# Altium integrated library Motorola Microcontroller 16-Bit.IntLib: 323 symbols (part 9 of 22)
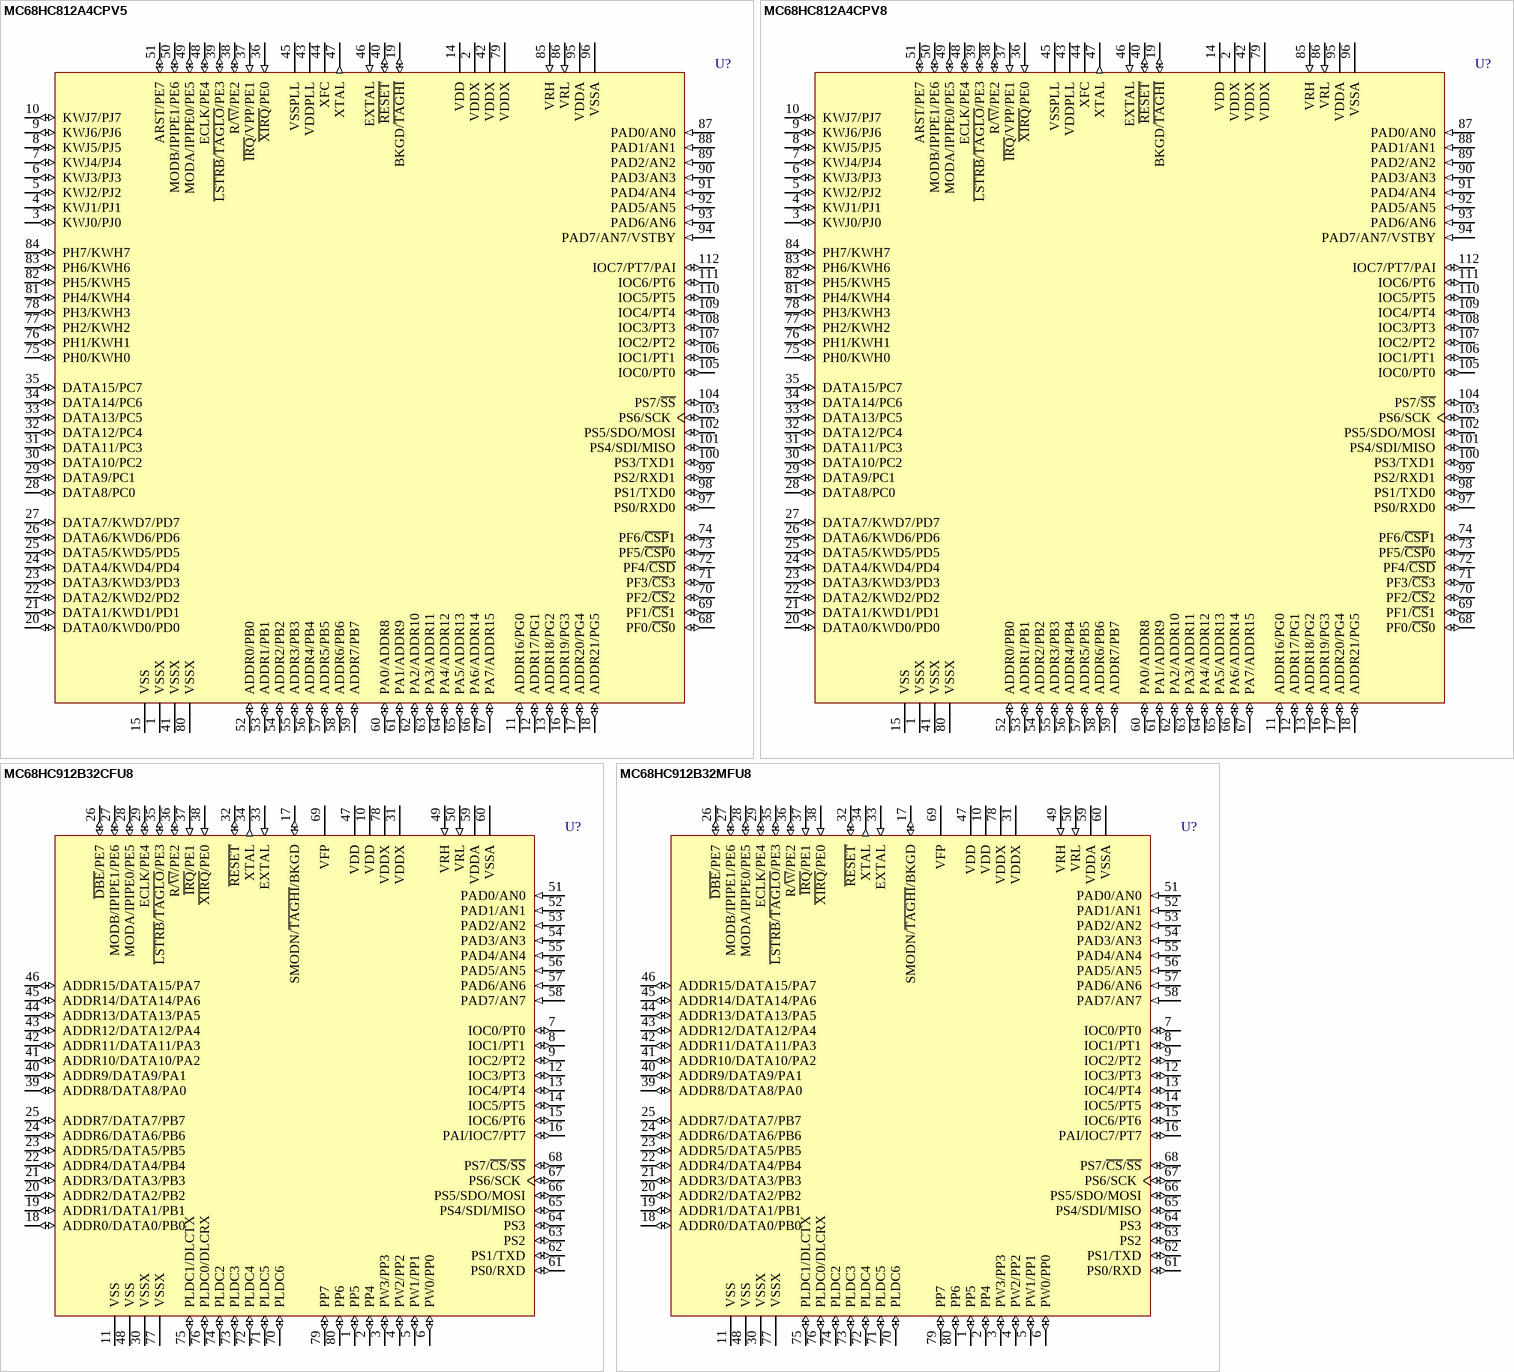
[diagram p149: symbols MC68HC812A4CPV5 to MC68HC912B32MFU8]

## MC68HC812A4CPV5
designator U?
16-Bit Microcontroller; Published: 21-Mar-2003; LatestRevisionDate: 13-Apr-2006; LatestRevisionNote: IPC-7351 Footprint Added.; DatasheetVersion: 9-Sep-2002; PackageVersion: rev3.1, Nov-2000; PackageReference: 987-01; Publisher: Altium Limited; PackageDescription: 112-Pin Thin Quad Flat Pack 0.65 mm Pitch; ComponentLink1Description: Manufacturer Link; ComponentLink1URL: http://www.freescale.com/
footprint 987-01_N (Thin QFP, 112-Leads, Body 20 x 20mm, Pitch 0.65mm, IPC Medium Density)
footprint 987-01_L (Thin QFP, 112-Leads, Body 20 x 20mm, Pitch 0.65mm, IPC High Density)
footprint 987-01_M (Thin QFP, 112-Leads, Body 20 x 20mm, Pitch 0.65mm, IPC Low Density)
3D model MC68HC812-987-01 (112-Pin Thin Quad Flat Pack 0.65 mm Pitch)
pins: 1 VSSX (power), 2 VDDX (power), 3 KWJ0/PJ0 (io), 4 KWJ1/PJ1 (io), 5 KWJ2/PJ2 (io), 6 KWJ3/PJ3 (io), 7 KWJ4/PJ4 (io), 8 KWJ5/PJ5 (io), 9 KWJ6/PJ6 (io), 10 KWJ7/PJ7 (io), 11 ADDR16/PG0 (io), 12 ADDR17/PG1 (io), 13 ADDR18/PG2 (io), 14 VDD (power), 15 VSS (power), 16 ADDR19/PG3 (io), 17 ADDR20/PG4 (io), 18 ADDR21/PG5 (io), 19 BKGD/~{TAGHI} (io), 20 DATA0/KWD0/PD0 (io), 21 DATA1/KWD1/PD1 (io), 22 DATA2/KWD2/PD2 (io), 23 DATA3/KWD3/PD3 (io), 24 DATA4/KWD4/PD4 (io), 25 DATA5/KWD5/PD5 (io), 26 DATA6/KWD6/PD6 (io), 27 DATA7/KWD7/PD7 (io), 28 DATA8/PC0 (io), 29 DATA9/PC1 (io), 30 DATA10/PC2 (io), 31 DATA11/PC3 (io), 32 DATA12/PC4 (io), 33 DATA13/PC5 (io), 34 DATA14/PC6 (io), 35 DATA15/PC7 (io), 36 ~{XIRQ}/PE0 (in), 37 ~{IRQ}/VPP/PE1 (in), 38 R/~{W}/PE2 (io), 39 ~{LSTRB}/~{TAGLO}/PE3 (io), 40 ~{RESET} (io), 41 VSSX (power), 42 VDDX (power), 43 VDDPLL (power), 44 XFC, 45 VSSPLL (power), 46 EXTAL (in), 47 XTAL (out), 48 ECLK/PE4 (io), 49 MODA/IPIPE0/PE5 (io), 50 MODB/IPIPE1/PE6 (io), 51 ARST/PE7 (io), 52 ADDR0/PB0 (io), 53 ADDR1/PB1 (io), 54 ADDR2/PB2 (io), 55 ADDR3/PB3 (io), 56 ADDR4/PB4 (io), 57 ADDR5/PB5 (io), 58 ADDR6/PB6 (io), 59 ADDR7/PB7 (io), 60 PA0/ADDR8 (io), 61 PA1/ADDR9 (io), 62 PA2/ADDR10 (io), 63 PA3/ADDR11 (io), 64 PA4/ADDR12 (io), 65 PA5/ADDR13 (io), 66 PA6/ADDR14 (io), 67 PA7/ADDR15 (io), 68 PF0/~{CS}0 (io), 69 PF1/~{CS}1 (io), 70 PF2/~{CS}2 (io), 71 PF3/~{CS}3 (io), 72 PF4/~{CSD} (io), 73 PF5/~{CSP}0 (io), 74 PF6/~{CSP}1 (io), 75 PH0/KWH0 (io), 76 PH1/KWH1 (io), 77 PH2/KWH2 (io), 78 PH3/KWH3 (io), 79 VDDX (power), 80 VSSX (power), 81 PH4/KWH4 (io), 82 PH5/KWH5 (io), 83 PH6/KWH6 (io), 84 PH7/KWH7 (io), 85 VRH (in), 86 VRL (in), 87 PAD0/AN0 (in), 88 PAD1/AN1 (in), 89 PAD2/AN2 (in), 90 PAD3/AN3 (in), 91 PAD4/AN4 (in), 92 PAD5/AN5 (in), 93 PAD6/AN6 (in), 94 PAD7/AN7/VSTBY (in), 95 VDDA (power), 96 VSSA (power), 97 PS0/RXD0 (io), 98 PS1/TXD0 (io), 99 PS2/RXD1 (io), 100 PS3/TXD1 (io), 101 PS4/SDI/MISO (io), 102 PS5/SDO/MOSI (io), 103 PS6/SCK (io), 104 PS7/~{SS} (io), 105 IOC0/PT0 (io), 106 IOC1/PT1 (io), 107 IOC2/PT2 (io), 108 IOC3/PT3 (io), 109 IOC4/PT4 (io), 110 IOC5/PT5 (io), 111 IOC6/PT6 (io), 112 IOC7/PT7/PAI (io)

## MC68HC812A4CPV8
designator U?
16-Bit Microcontroller; Published: 21-Mar-2003; LatestRevisionDate: 13-Apr-2006; LatestRevisionNote: IPC-7351 Footprint Added.; DatasheetVersion: 9-Sep-2002; PackageVersion: rev3.1, Nov-2000; PackageReference: 987-01; Publisher: Altium Limited; PackageDescription: 112-Pin Thin Quad Flat Pack 0.65 mm Pitch; ComponentLink1Description: Manufacturer Link; ComponentLink1URL: http://www.freescale.com/
footprint 987-01_N (Thin QFP, 112-Leads, Body 20 x 20mm, Pitch 0.65mm, IPC Medium Density)
footprint 987-01_L (Thin QFP, 112-Leads, Body 20 x 20mm, Pitch 0.65mm, IPC High Density)
footprint 987-01_M (Thin QFP, 112-Leads, Body 20 x 20mm, Pitch 0.65mm, IPC Low Density)
3D model MC68HC812-987-01 (112-Pin Thin Quad Flat Pack 0.65 mm Pitch)
pins: 1 VSSX (power), 2 VDDX (power), 3 KWJ0/PJ0 (io), 4 KWJ1/PJ1 (io), 5 KWJ2/PJ2 (io), 6 KWJ3/PJ3 (io), 7 KWJ4/PJ4 (io), 8 KWJ5/PJ5 (io), 9 KWJ6/PJ6 (io), 10 KWJ7/PJ7 (io), 11 ADDR16/PG0 (io), 12 ADDR17/PG1 (io), 13 ADDR18/PG2 (io), 14 VDD (power), 15 VSS (power), 16 ADDR19/PG3 (io), 17 ADDR20/PG4 (io), 18 ADDR21/PG5 (io), 19 BKGD/~{TAGHI} (io), 20 DATA0/KWD0/PD0 (io), 21 DATA1/KWD1/PD1 (io), 22 DATA2/KWD2/PD2 (io), 23 DATA3/KWD3/PD3 (io), 24 DATA4/KWD4/PD4 (io), 25 DATA5/KWD5/PD5 (io), 26 DATA6/KWD6/PD6 (io), 27 DATA7/KWD7/PD7 (io), 28 DATA8/PC0 (io), 29 DATA9/PC1 (io), 30 DATA10/PC2 (io), 31 DATA11/PC3 (io), 32 DATA12/PC4 (io), 33 DATA13/PC5 (io), 34 DATA14/PC6 (io), 35 DATA15/PC7 (io), 36 ~{XIRQ}/PE0 (in), 37 ~{IRQ}/VPP/PE1 (in), 38 R/~{W}/PE2 (io), 39 ~{LSTRB}/~{TAGLO}/PE3 (io), 40 ~{RESET} (io), 41 VSSX (power), 42 VDDX (power), 43 VDDPLL (power), 44 XFC, 45 VSSPLL (power), 46 EXTAL (in), 47 XTAL (out), 48 ECLK/PE4 (io), 49 MODA/IPIPE0/PE5 (io), 50 MODB/IPIPE1/PE6 (io), 51 ARST/PE7 (io), 52 ADDR0/PB0 (io), 53 ADDR1/PB1 (io), 54 ADDR2/PB2 (io), 55 ADDR3/PB3 (io), 56 ADDR4/PB4 (io), 57 ADDR5/PB5 (io), 58 ADDR6/PB6 (io), 59 ADDR7/PB7 (io), 60 PA0/ADDR8 (io), 61 PA1/ADDR9 (io), 62 PA2/ADDR10 (io), 63 PA3/ADDR11 (io), 64 PA4/ADDR12 (io), 65 PA5/ADDR13 (io), 66 PA6/ADDR14 (io), 67 PA7/ADDR15 (io), 68 PF0/~{CS}0 (io), 69 PF1/~{CS}1 (io), 70 PF2/~{CS}2 (io), 71 PF3/~{CS}3 (io), 72 PF4/~{CSD} (io), 73 PF5/~{CSP}0 (io), 74 PF6/~{CSP}1 (io), 75 PH0/KWH0 (io), 76 PH1/KWH1 (io), 77 PH2/KWH2 (io), 78 PH3/KWH3 (io), 79 VDDX (power), 80 VSSX (power), 81 PH4/KWH4 (io), 82 PH5/KWH5 (io), 83 PH6/KWH6 (io), 84 PH7/KWH7 (io), 85 VRH (in), 86 VRL (in), 87 PAD0/AN0 (in), 88 PAD1/AN1 (in), 89 PAD2/AN2 (in), 90 PAD3/AN3 (in), 91 PAD4/AN4 (in), 92 PAD5/AN5 (in), 93 PAD6/AN6 (in), 94 PAD7/AN7/VSTBY (in), 95 VDDA (power), 96 VSSA (power), 97 PS0/RXD0 (io), 98 PS1/TXD0 (io), 99 PS2/RXD1 (io), 100 PS3/TXD1 (io), 101 PS4/SDI/MISO (io), 102 PS5/SDO/MOSI (io), 103 PS6/SCK (io), 104 PS7/~{SS} (io), 105 IOC0/PT0 (io), 106 IOC1/PT1 (io), 107 IOC2/PT2 (io), 108 IOC3/PT3 (io), 109 IOC4/PT4 (io), 110 IOC5/PT5 (io), 111 IOC6/PT6 (io), 112 IOC7/PT7/PAI (io)

## MC68HC912B32CFU8
designator U?
16-Bit Microcontroller; Published: 21-Mar-2003; LatestRevisionDate: 13-Apr-2006; LatestRevisionNote: IPC-7351 Footprint Added.; DatasheetVersion: 17-Apr-2002; PackageVersion: rev4.0, Apr-2002; PackageReference: 841B-02; Publisher: Altium Limited; PackageDescription: 80-Pin Quad Flat Pack 0.65 mm Pitch; Code_IPC: QFP65P1720X1720-80; ComponentLink1Description: Manufacturer Link; ComponentLink1URL: http://www.freescale.com/; ComponentLink2Description: Datasheet; ComponentLink2URL: http://www.freescale.com/files/microcontrollers/doc/data_sheet/M68HC12B.pdf
footprint 841B-02_N (QFP, 80-Leads, Body 14 x 14mm, Pitch 0.65mm, IPC Medium Density)
footprint 841B-02_L (QFP, 80-Leads, Body 14 x 14mm, Pitch 0.65mm, IPC High Density)
footprint 841B-02_M (QFP, 80-Leads, Body 14 x 14mm, Pitch 0.65mm, IPC Low Density)
3D model MC68HC912-841B-02 (80-Pin Quad Flat Pack 0.65 mm Pitch)
pins: 1 PP5 (io), 2 PP4 (io), 3 PW3/PP3 (io), 4 PW2/PP2 (io), 5 PW1/PP1 (io), 6 PW0/PP0 (io), 7 IOC0/PT0 (io), 8 IOC1/PT1 (io), 9 IOC2/PT2 (io), 10 VDD (power), 11 VSS (power), 12 IOC3/PT3 (io), 13 IOC4/PT4 (io), 14 IOC5/PT5 (io), 15 IOC6/PT6 (io), 16 PAI/IOC7/PT7 (io), 17 SMODN/~{TAGHI}/BKGD (io), 18 ADDR0/DATA0/PB0 (io), 19 ADDR1/DATA1/PB1 (io), 20 ADDR2/DATA2/PB2 (io), 21 ADDR3/DATA3/PB3 (io), 22 ADDR4/DATA4/PB4 (io), 23 ADDR5/DATA5/PB5 (io), 24 ADDR6/DATA6/PB6 (io), 25 ADDR7/DATA7/PB7 (io), 26 ~{DBE}/PE7 (io), 27 MODB/IPIPE1/PE6 (io), 28 MODA/IPIPE0/PE5 (io), 29 ECLK/PE4 (io), 30 VSSX (power), 31 VDDX (power), 32 ~{RESET} (io), 33 EXTAL (in), 34 XTAL (out), 35 ~{LSTRB}/~{TAGLO}/PE3 (io), 36 R/~{W}/PE2 (io), 37 ~{IRQ}/PE1 (in), 38 ~{XIRQ}/PE0 (in), 39 ADDR8/DATA8/PA0 (io), 40 ADDR9/DATA9/PA1 (io), 41 ADDR10/DATA10/PA2 (io), 42 ADDR11/DATA11/PA3 (io), 43 ADDR12/DATA12/PA4 (io), 44 ADDR13/DATA13/PA5 (io), 45 ADDR14/DATA14/PA6 (io), 46 ADDR15/DATA15/PA7 (io), 47 VDD (power), 48 VSS (power), 49 VRH (in), 50 VRL (in), 51 PAD0/AN0 (in), 52 PAD1/AN1 (in), 53 PAD2/AN2 (in), 54 PAD3/AN3 (in), 55 PAD4/AN4 (in), 56 PAD5/AN5 (in), 57 PAD6/AN6 (in), 58 PAD7/AN7 (in), 59 VDDA (power), 60 VSSA (power), 61 PS0/RXD (io), 62 PS1/TXD (io), 63 PS2 (io), 64 PS3 (io), 65 PS4/SDI/MISO (io), 66 PS5/SDO/MOSI (io), 67 PS6/SCK (io), 68 PS7/~{CS}/~{SS} (io), 69 VFP (power), 70 PLDC6 (io), 71 PLDC5 (io), 72 PLDC4 (io), 73 PLDC3 (io), 74 PLDC2 (io), 75 PLDC1/DLCTX (io), 76 PLDC0/DLCRX (io), 77 VSSX (power), 78 VDDX (power), 79 PP7 (io), 80 PP6 (io)

## MC68HC912B32MFU8
designator U?
16-Bit Microcontroller; Published: 21-Mar-2003; LatestRevisionDate: 13-Apr-2006; LatestRevisionNote: IPC-7351 Footprint Added.; DatasheetVersion: 17-Apr-2002; PackageVersion: rev4.0, Apr-2002; PackageReference: 841B-02; Publisher: Altium Limited; PackageDescription: 80-Pin Quad Flat Pack 0.65 mm Pitch; Code_IPC: QFP65P1720X1720-80; ComponentLink1Description: Manufacturer Link; ComponentLink1URL: http://www.freescale.com/; ComponentLink2Description: Datasheet; ComponentLink2URL: http://www.freescale.com/files/microcontrollers/doc/data_sheet/M68HC12B.pdf
footprint 841B-02_N (QFP, 80-Leads, Body 14 x 14mm, Pitch 0.65mm, IPC Medium Density)
footprint 841B-02_L (QFP, 80-Leads, Body 14 x 14mm, Pitch 0.65mm, IPC High Density)
footprint 841B-02_M (QFP, 80-Leads, Body 14 x 14mm, Pitch 0.65mm, IPC Low Density)
3D model MC68HC912-841B-02 (80-Pin Quad Flat Pack 0.65 mm Pitch)
pins: 1 PP5 (io), 2 PP4 (io), 3 PW3/PP3 (io), 4 PW2/PP2 (io), 5 PW1/PP1 (io), 6 PW0/PP0 (io), 7 IOC0/PT0 (io), 8 IOC1/PT1 (io), 9 IOC2/PT2 (io), 10 VDD (power), 11 VSS (power), 12 IOC3/PT3 (io), 13 IOC4/PT4 (io), 14 IOC5/PT5 (io), 15 IOC6/PT6 (io), 16 PAI/IOC7/PT7 (io), 17 SMODN/~{TAGHI}/BKGD (io), 18 ADDR0/DATA0/PB0 (io), 19 ADDR1/DATA1/PB1 (io), 20 ADDR2/DATA2/PB2 (io), 21 ADDR3/DATA3/PB3 (io), 22 ADDR4/DATA4/PB4 (io), 23 ADDR5/DATA5/PB5 (io), 24 ADDR6/DATA6/PB6 (io), 25 ADDR7/DATA7/PB7 (io), 26 ~{DBE}/PE7 (io), 27 MODB/IPIPE1/PE6 (io), 28 MODA/IPIPE0/PE5 (io), 29 ECLK/PE4 (io), 30 VSSX (power), 31 VDDX (power), 32 ~{RESET} (io), 33 EXTAL (in), 34 XTAL (out), 35 ~{LSTRB}/~{TAGLO}/PE3 (io), 36 R/~{W}/PE2 (io), 37 ~{IRQ}/PE1 (in), 38 ~{XIRQ}/PE0 (in), 39 ADDR8/DATA8/PA0 (io), 40 ADDR9/DATA9/PA1 (io), 41 ADDR10/DATA10/PA2 (io), 42 ADDR11/DATA11/PA3 (io), 43 ADDR12/DATA12/PA4 (io), 44 ADDR13/DATA13/PA5 (io), 45 ADDR14/DATA14/PA6 (io), 46 ADDR15/DATA15/PA7 (io), 47 VDD (power), 48 VSS (power), 49 VRH (in), 50 VRL (in), 51 PAD0/AN0 (in), 52 PAD1/AN1 (in), 53 PAD2/AN2 (in), 54 PAD3/AN3 (in), 55 PAD4/AN4 (in), 56 PAD5/AN5 (in), 57 PAD6/AN6 (in), 58 PAD7/AN7 (in), 59 VDDA (power), 60 VSSA (power), 61 PS0/RXD (io), 62 PS1/TXD (io), 63 PS2 (io), 64 PS3 (io), 65 PS4/SDI/MISO (io), 66 PS5/SDO/MOSI (io), 67 PS6/SCK (io), 68 PS7/~{CS}/~{SS} (io), 69 VFP (power), 70 PLDC6 (io), 71 PLDC5 (io), 72 PLDC4 (io), 73 PLDC3 (io), 74 PLDC2 (io), 75 PLDC1/DLCTX (io), 76 PLDC0/DLCRX (io), 77 VSSX (power), 78 VDDX (power), 79 PP7 (io), 80 PP6 (io)

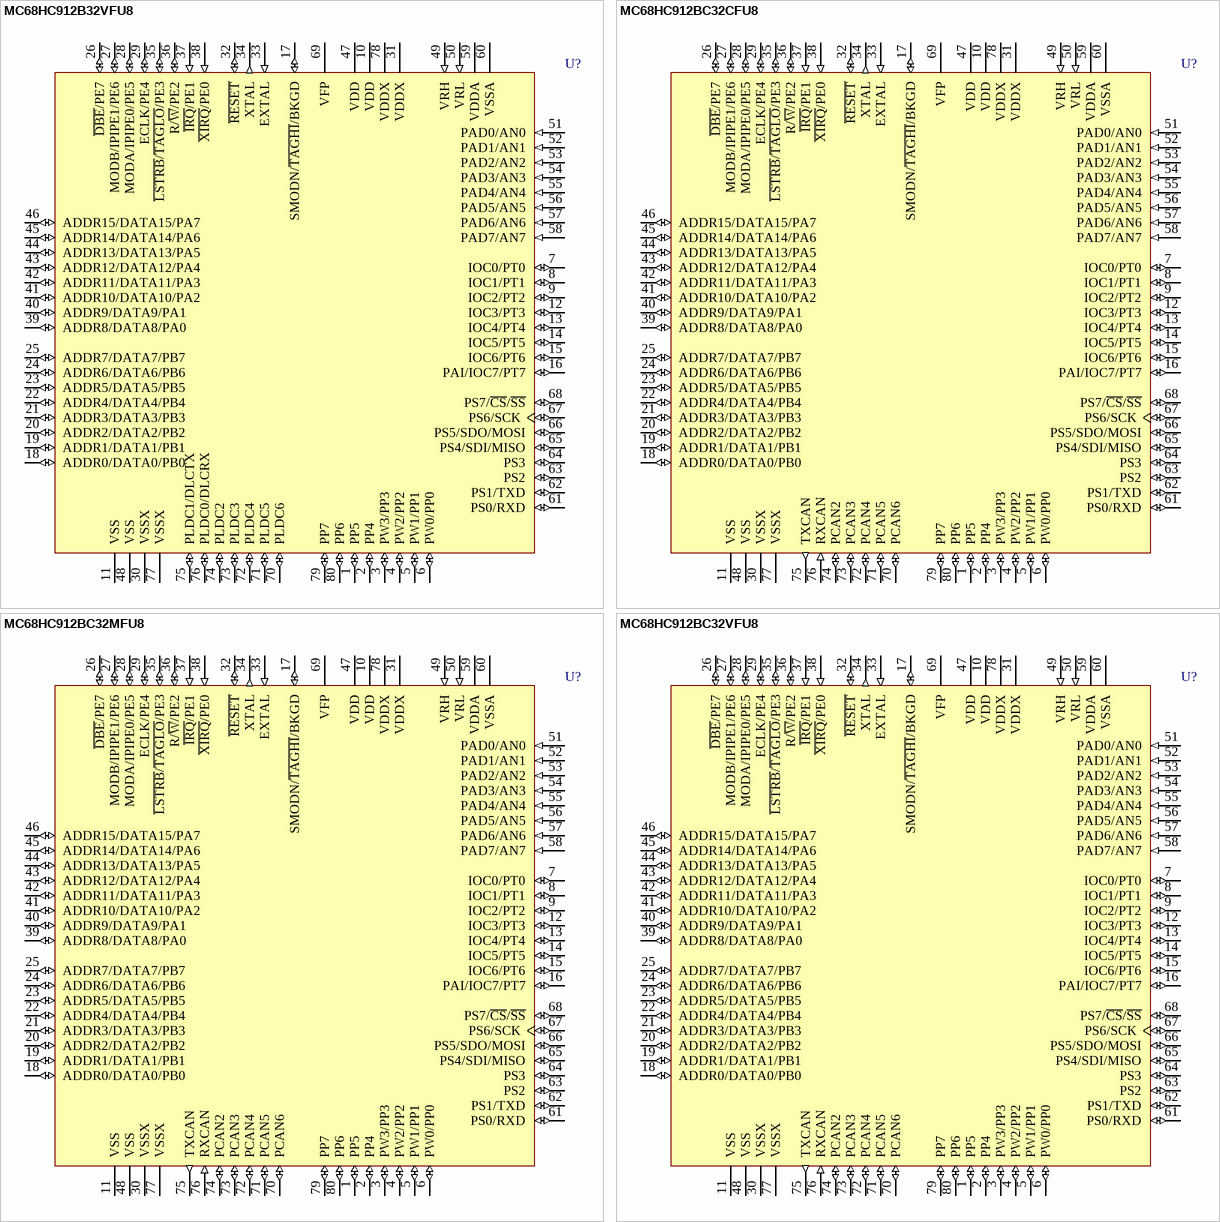
[diagram p44: symbols MC68HC912B32VFU8 to MC68HC912BC32VFU8]

## MC68HC912B32VFU8
designator U?
16-Bit Microcontroller; Published: 21-Mar-2003; LatestRevisionDate: 13-Apr-2006; LatestRevisionNote: IPC-7351 Footprint Added.; DatasheetVersion: 17-Apr-2002; PackageVersion: rev4.0, Apr-2002; PackageReference: 841B-02; Publisher: Altium Limited; PackageDescription: 80-Pin Quad Flat Pack 0.65 mm Pitch; Code_IPC: QFP65P1720X1720-80; ComponentLink1Description: Manufacturer Link; ComponentLink1URL: http://www.freescale.com/; ComponentLink2Description: Datasheet; ComponentLink2URL: http://www.freescale.com/files/microcontrollers/doc/data_sheet/M68HC12B.pdf
footprint 841B-02_N (QFP, 80-Leads, Body 14 x 14mm, Pitch 0.65mm, IPC Medium Density)
footprint 841B-02_L (QFP, 80-Leads, Body 14 x 14mm, Pitch 0.65mm, IPC High Density)
footprint 841B-02_M (QFP, 80-Leads, Body 14 x 14mm, Pitch 0.65mm, IPC Low Density)
3D model MC68HC912-841B-02 (80-Pin Quad Flat Pack 0.65 mm Pitch)
pins: 1 PP5 (io), 2 PP4 (io), 3 PW3/PP3 (io), 4 PW2/PP2 (io), 5 PW1/PP1 (io), 6 PW0/PP0 (io), 7 IOC0/PT0 (io), 8 IOC1/PT1 (io), 9 IOC2/PT2 (io), 10 VDD (power), 11 VSS (power), 12 IOC3/PT3 (io), 13 IOC4/PT4 (io), 14 IOC5/PT5 (io), 15 IOC6/PT6 (io), 16 PAI/IOC7/PT7 (io), 17 SMODN/~{TAGHI}/BKGD (io), 18 ADDR0/DATA0/PB0 (io), 19 ADDR1/DATA1/PB1 (io), 20 ADDR2/DATA2/PB2 (io), 21 ADDR3/DATA3/PB3 (io), 22 ADDR4/DATA4/PB4 (io), 23 ADDR5/DATA5/PB5 (io), 24 ADDR6/DATA6/PB6 (io), 25 ADDR7/DATA7/PB7 (io), 26 ~{DBE}/PE7 (io), 27 MODB/IPIPE1/PE6 (io), 28 MODA/IPIPE0/PE5 (io), 29 ECLK/PE4 (io), 30 VSSX (power), 31 VDDX (power), 32 ~{RESET} (io), 33 EXTAL (in), 34 XTAL (out), 35 ~{LSTRB}/~{TAGLO}/PE3 (io), 36 R/~{W}/PE2 (io), 37 ~{IRQ}/PE1 (in), 38 ~{XIRQ}/PE0 (in), 39 ADDR8/DATA8/PA0 (io), 40 ADDR9/DATA9/PA1 (io), 41 ADDR10/DATA10/PA2 (io), 42 ADDR11/DATA11/PA3 (io), 43 ADDR12/DATA12/PA4 (io), 44 ADDR13/DATA13/PA5 (io), 45 ADDR14/DATA14/PA6 (io), 46 ADDR15/DATA15/PA7 (io), 47 VDD (power), 48 VSS (power), 49 VRH (in), 50 VRL (in), 51 PAD0/AN0 (in), 52 PAD1/AN1 (in), 53 PAD2/AN2 (in), 54 PAD3/AN3 (in), 55 PAD4/AN4 (in), 56 PAD5/AN5 (in), 57 PAD6/AN6 (in), 58 PAD7/AN7 (in), 59 VDDA (power), 60 VSSA (power), 61 PS0/RXD (io), 62 PS1/TXD (io), 63 PS2 (io), 64 PS3 (io), 65 PS4/SDI/MISO (io), 66 PS5/SDO/MOSI (io), 67 PS6/SCK (io), 68 PS7/~{CS}/~{SS} (io), 69 VFP (power), 70 PLDC6 (io), 71 PLDC5 (io), 72 PLDC4 (io), 73 PLDC3 (io), 74 PLDC2 (io), 75 PLDC1/DLCTX (io), 76 PLDC0/DLCRX (io), 77 VSSX (power), 78 VDDX (power), 79 PP7 (io), 80 PP6 (io)

## MC68HC912BC32CFU8
designator U?
16-Bit Microcontroller; Published: 21-Mar-2003; LatestRevisionDate: 13-Apr-2006; LatestRevisionNote: IPC-7351 Footprint Added.; DatasheetVersion: 17-Apr-2002; PackageVersion: rev4.0, Apr-2002; PackageReference: 841B-02; Publisher: Altium Limited; PackageDescription: 80-Pin Quad Flat Pack 0.65 mm Pitch; Code_IPC: QFP65P1720X1720-80; ComponentLink1Description: Manufacturer Link; ComponentLink1URL: http://www.freescale.com/; ComponentLink2Description: Datasheet; ComponentLink2URL: http://www.freescale.com/files/microcontrollers/doc/data_sheet/M68HC12B.pdf
footprint 841B-02_N (QFP, 80-Leads, Body 14 x 14mm, Pitch 0.65mm, IPC Medium Density)
footprint 841B-02_L (QFP, 80-Leads, Body 14 x 14mm, Pitch 0.65mm, IPC High Density)
footprint 841B-02_M (QFP, 80-Leads, Body 14 x 14mm, Pitch 0.65mm, IPC Low Density)
3D model MC68HC912-841B-02 (80-Pin Quad Flat Pack 0.65 mm Pitch)
pins: 1 PP5 (io), 2 PP4 (io), 3 PW3/PP3 (io), 4 PW2/PP2 (io), 5 PW1/PP1 (io), 6 PW0/PP0 (io), 7 IOC0/PT0 (io), 8 IOC1/PT1 (io), 9 IOC2/PT2 (io), 10 VDD (power), 11 VSS (power), 12 IOC3/PT3 (io), 13 IOC4/PT4 (io), 14 IOC5/PT5 (io), 15 IOC6/PT6 (io), 16 PAI/IOC7/PT7 (io), 17 SMODN/~{TAGHI}/BKGD (io), 18 ADDR0/DATA0/PB0 (io), 19 ADDR1/DATA1/PB1 (io), 20 ADDR2/DATA2/PB2 (io), 21 ADDR3/DATA3/PB3 (io), 22 ADDR4/DATA4/PB4 (io), 23 ADDR5/DATA5/PB5 (io), 24 ADDR6/DATA6/PB6 (io), 25 ADDR7/DATA7/PB7 (io), 26 ~{DBE}/PE7 (io), 27 MODB/IPIPE1/PE6 (io), 28 MODA/IPIPE0/PE5 (io), 29 ECLK/PE4 (io), 30 VSSX (power), 31 VDDX (power), 32 ~{RESET} (io), 33 EXTAL (in), 34 XTAL (out), 35 ~{LSTRB}/~{TAGLO}/PE3 (io), 36 R/~{W}/PE2 (io), 37 ~{IRQ}/PE1 (in), 38 ~{XIRQ}/PE0 (in), 39 ADDR8/DATA8/PA0 (io), 40 ADDR9/DATA9/PA1 (io), 41 ADDR10/DATA10/PA2 (io), 42 ADDR11/DATA11/PA3 (io), 43 ADDR12/DATA12/PA4 (io), 44 ADDR13/DATA13/PA5 (io), 45 ADDR14/DATA14/PA6 (io), 46 ADDR15/DATA15/PA7 (io), 47 VDD (power), 48 VSS (power), 49 VRH (in), 50 VRL (in), 51 PAD0/AN0 (in), 52 PAD1/AN1 (in), 53 PAD2/AN2 (in), 54 PAD3/AN3 (in), 55 PAD4/AN4 (in), 56 PAD5/AN5 (in), 57 PAD6/AN6 (in), 58 PAD7/AN7 (in), 59 VDDA (power), 60 VSSA (power), 61 PS0/RXD (io), 62 PS1/TXD (io), 63 PS2 (io), 64 PS3 (io), 65 PS4/SDI/MISO (io), 66 PS5/SDO/MOSI (io), 67 PS6/SCK (io), 68 PS7/~{CS}/~{SS} (io), 69 VFP (power), 70 PCAN6 (io), 71 PCAN5 (io), 72 PCAN4 (io), 73 PCAN3 (io), 74 PCAN2 (io), 75 TXCAN (out), 76 RXCAN (in), 77 VSSX (power), 78 VDDX (power), 79 PP7 (io), 80 PP6 (io)

## MC68HC912BC32MFU8
designator U?
16-Bit Microcontroller; Published: 21-Mar-2003; LatestRevisionDate: 13-Apr-2006; LatestRevisionNote: IPC-7351 Footprint Added.; DatasheetVersion: 17-Apr-2002; PackageVersion: rev4.0, Apr-2002; PackageReference: 841B-02; Publisher: Altium Limited; PackageDescription: 80-Pin Quad Flat Pack 0.65 mm Pitch; Code_IPC: QFP65P1720X1720-80; ComponentLink1Description: Manufacturer Link; ComponentLink1URL: http://www.freescale.com/; ComponentLink2Description: Datasheet; ComponentLink2URL: http://www.freescale.com/files/microcontrollers/doc/data_sheet/M68HC12B.pdf
footprint 841B-02_N (QFP, 80-Leads, Body 14 x 14mm, Pitch 0.65mm, IPC Medium Density)
footprint 841B-02_L (QFP, 80-Leads, Body 14 x 14mm, Pitch 0.65mm, IPC High Density)
footprint 841B-02_M (QFP, 80-Leads, Body 14 x 14mm, Pitch 0.65mm, IPC Low Density)
3D model MC68HC912-841B-02 (80-Pin Quad Flat Pack 0.65 mm Pitch)
pins: 1 PP5 (io), 2 PP4 (io), 3 PW3/PP3 (io), 4 PW2/PP2 (io), 5 PW1/PP1 (io), 6 PW0/PP0 (io), 7 IOC0/PT0 (io), 8 IOC1/PT1 (io), 9 IOC2/PT2 (io), 10 VDD (power), 11 VSS (power), 12 IOC3/PT3 (io), 13 IOC4/PT4 (io), 14 IOC5/PT5 (io), 15 IOC6/PT6 (io), 16 PAI/IOC7/PT7 (io), 17 SMODN/~{TAGHI}/BKGD (io), 18 ADDR0/DATA0/PB0 (io), 19 ADDR1/DATA1/PB1 (io), 20 ADDR2/DATA2/PB2 (io), 21 ADDR3/DATA3/PB3 (io), 22 ADDR4/DATA4/PB4 (io), 23 ADDR5/DATA5/PB5 (io), 24 ADDR6/DATA6/PB6 (io), 25 ADDR7/DATA7/PB7 (io), 26 ~{DBE}/PE7 (io), 27 MODB/IPIPE1/PE6 (io), 28 MODA/IPIPE0/PE5 (io), 29 ECLK/PE4 (io), 30 VSSX (power), 31 VDDX (power), 32 ~{RESET} (io), 33 EXTAL (in), 34 XTAL (out), 35 ~{LSTRB}/~{TAGLO}/PE3 (io), 36 R/~{W}/PE2 (io), 37 ~{IRQ}/PE1 (in), 38 ~{XIRQ}/PE0 (in), 39 ADDR8/DATA8/PA0 (io), 40 ADDR9/DATA9/PA1 (io), 41 ADDR10/DATA10/PA2 (io), 42 ADDR11/DATA11/PA3 (io), 43 ADDR12/DATA12/PA4 (io), 44 ADDR13/DATA13/PA5 (io), 45 ADDR14/DATA14/PA6 (io), 46 ADDR15/DATA15/PA7 (io), 47 VDD (power), 48 VSS (power), 49 VRH (in), 50 VRL (in), 51 PAD0/AN0 (in), 52 PAD1/AN1 (in), 53 PAD2/AN2 (in), 54 PAD3/AN3 (in), 55 PAD4/AN4 (in), 56 PAD5/AN5 (in), 57 PAD6/AN6 (in), 58 PAD7/AN7 (in), 59 VDDA (power), 60 VSSA (power), 61 PS0/RXD (io), 62 PS1/TXD (io), 63 PS2 (io), 64 PS3 (io), 65 PS4/SDI/MISO (io), 66 PS5/SDO/MOSI (io), 67 PS6/SCK (io), 68 PS7/~{CS}/~{SS} (io), 69 VFP (power), 70 PCAN6 (io), 71 PCAN5 (io), 72 PCAN4 (io), 73 PCAN3 (io), 74 PCAN2 (io), 75 TXCAN (out), 76 RXCAN (in), 77 VSSX (power), 78 VDDX (power), 79 PP7 (io), 80 PP6 (io)

## MC68HC912BC32VFU8
designator U?
16-Bit Microcontroller; Published: 21-Mar-2003; LatestRevisionDate: 13-Apr-2006; LatestRevisionNote: IPC-7351 Footprint Added.; DatasheetVersion: 17-Apr-2002; PackageVersion: rev4.0, Apr-2002; PackageReference: 841B-02; Publisher: Altium Limited; PackageDescription: 80-Pin Quad Flat Pack 0.65 mm Pitch; Code_IPC: QFP65P1720X1720-80; ComponentLink1Description: Manufacturer Link; ComponentLink1URL: http://www.freescale.com/; ComponentLink2Description: Datasheet; ComponentLink2URL: http://www.freescale.com/files/microcontrollers/doc/data_sheet/M68HC12B.pdf
footprint 841B-02_N (QFP, 80-Leads, Body 14 x 14mm, Pitch 0.65mm, IPC Medium Density)
footprint 841B-02_L (QFP, 80-Leads, Body 14 x 14mm, Pitch 0.65mm, IPC High Density)
footprint 841B-02_M (QFP, 80-Leads, Body 14 x 14mm, Pitch 0.65mm, IPC Low Density)
3D model MC68HC912-841B-02 (80-Pin Quad Flat Pack 0.65 mm Pitch)
pins: 1 PP5 (io), 2 PP4 (io), 3 PW3/PP3 (io), 4 PW2/PP2 (io), 5 PW1/PP1 (io), 6 PW0/PP0 (io), 7 IOC0/PT0 (io), 8 IOC1/PT1 (io), 9 IOC2/PT2 (io), 10 VDD (power), 11 VSS (power), 12 IOC3/PT3 (io), 13 IOC4/PT4 (io), 14 IOC5/PT5 (io), 15 IOC6/PT6 (io), 16 PAI/IOC7/PT7 (io), 17 SMODN/~{TAGHI}/BKGD (io), 18 ADDR0/DATA0/PB0 (io), 19 ADDR1/DATA1/PB1 (io), 20 ADDR2/DATA2/PB2 (io), 21 ADDR3/DATA3/PB3 (io), 22 ADDR4/DATA4/PB4 (io), 23 ADDR5/DATA5/PB5 (io), 24 ADDR6/DATA6/PB6 (io), 25 ADDR7/DATA7/PB7 (io), 26 ~{DBE}/PE7 (io), 27 MODB/IPIPE1/PE6 (io), 28 MODA/IPIPE0/PE5 (io), 29 ECLK/PE4 (io), 30 VSSX (power), 31 VDDX (power), 32 ~{RESET} (io), 33 EXTAL (in), 34 XTAL (out), 35 ~{LSTRB}/~{TAGLO}/PE3 (io), 36 R/~{W}/PE2 (io), 37 ~{IRQ}/PE1 (in), 38 ~{XIRQ}/PE0 (in), 39 ADDR8/DATA8/PA0 (io), 40 ADDR9/DATA9/PA1 (io), 41 ADDR10/DATA10/PA2 (io), 42 ADDR11/DATA11/PA3 (io), 43 ADDR12/DATA12/PA4 (io), 44 ADDR13/DATA13/PA5 (io), 45 ADDR14/DATA14/PA6 (io), 46 ADDR15/DATA15/PA7 (io), 47 VDD (power), 48 VSS (power), 49 VRH (in), 50 VRL (in), 51 PAD0/AN0 (in), 52 PAD1/AN1 (in), 53 PAD2/AN2 (in), 54 PAD3/AN3 (in), 55 PAD4/AN4 (in), 56 PAD5/AN5 (in), 57 PAD6/AN6 (in), 58 PAD7/AN7 (in), 59 VDDA (power), 60 VSSA (power), 61 PS0/RXD (io), 62 PS1/TXD (io), 63 PS2 (io), 64 PS3 (io), 65 PS4/SDI/MISO (io), 66 PS5/SDO/MOSI (io), 67 PS6/SCK (io), 68 PS7/~{CS}/~{SS} (io), 69 VFP (power), 70 PCAN6 (io), 71 PCAN5 (io), 72 PCAN4 (io), 73 PCAN3 (io), 74 PCAN2 (io), 75 TXCAN (out), 76 RXCAN (in), 77 VSSX (power), 78 VDDX (power), 79 PP7 (io), 80 PP6 (io)

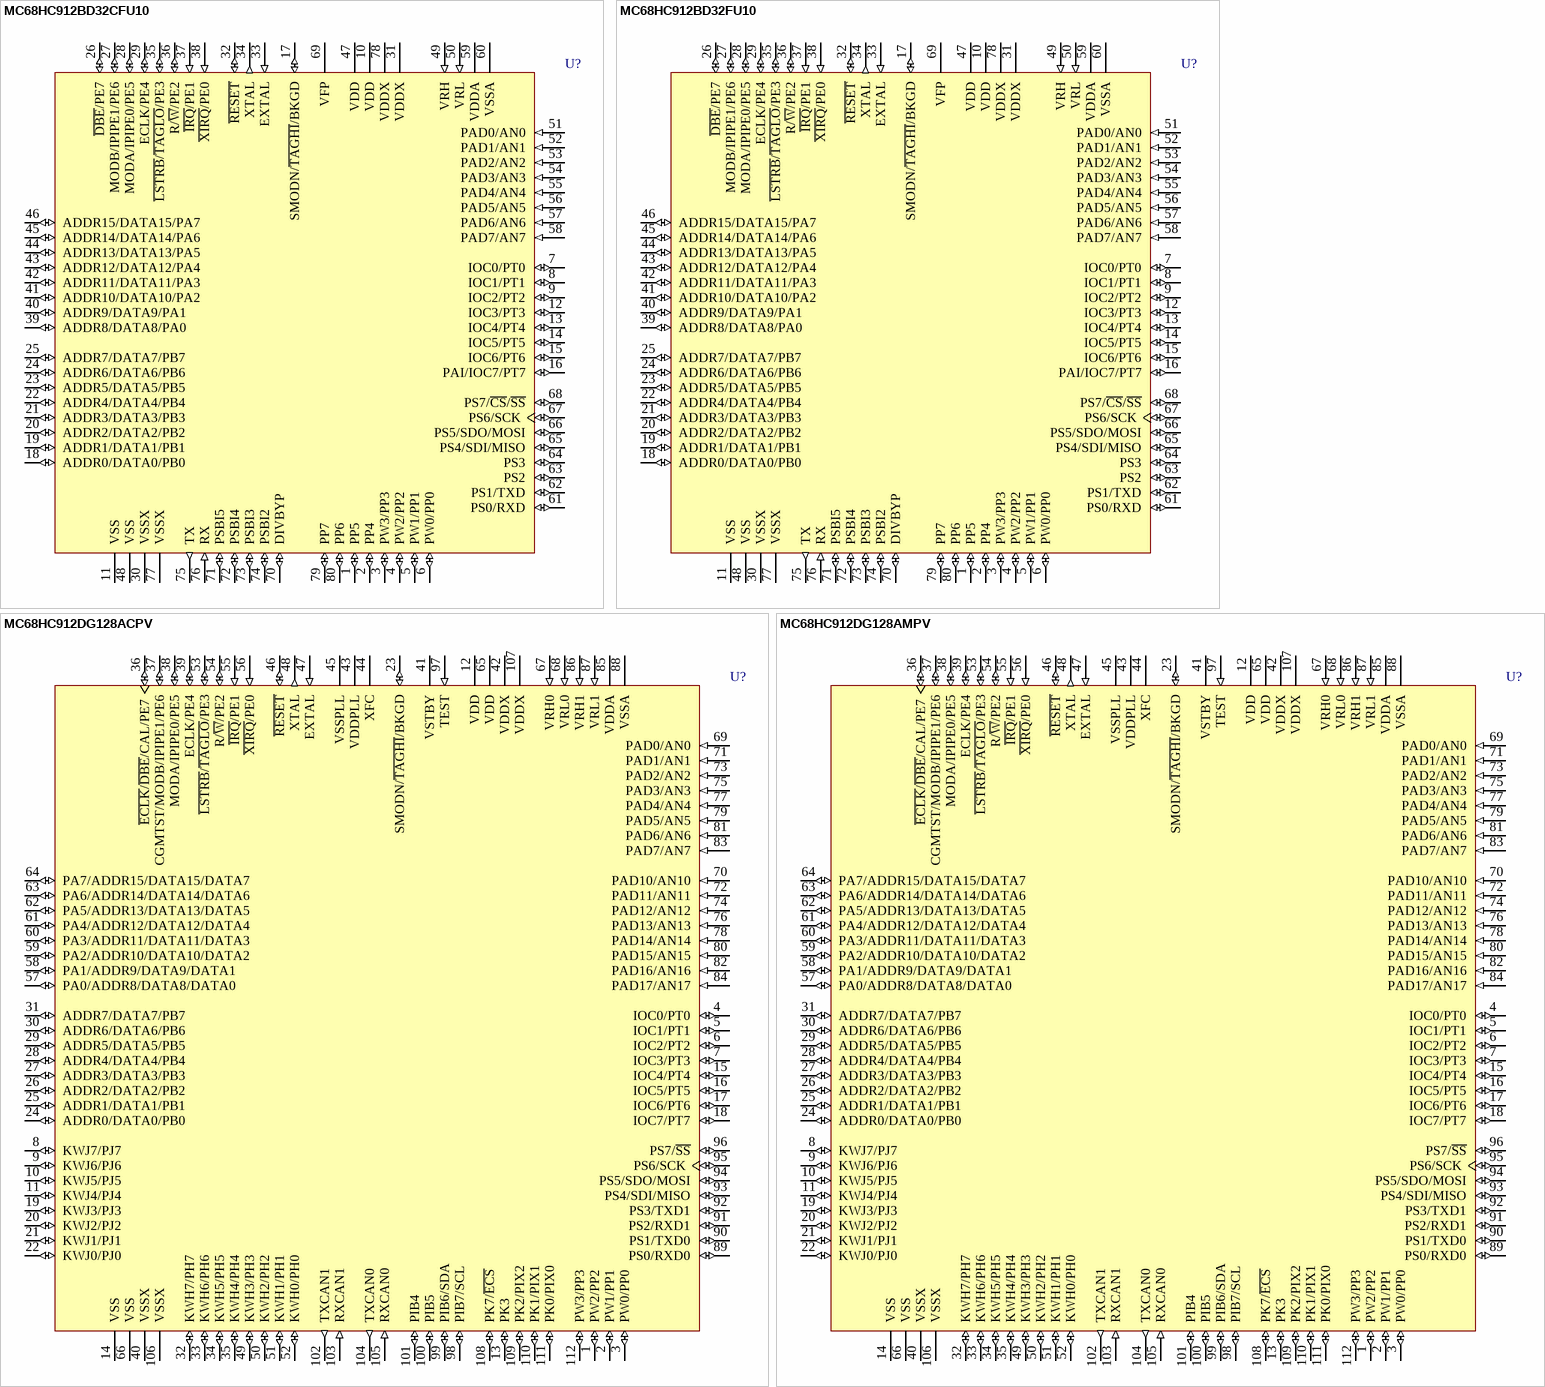
[diagram p45: symbols MC68HC912BD32CFU10 to MC68HC912DG128AMPV]

## MC68HC912BD32CFU10
designator U?
16-Bit Microcontroller; Note: Not recommended for new designs.; Published: 21-Mar-2003; LatestRevisionDate: 13-Apr-2006; LatestRevisionNote: IPC-7351 Footprint Added.; DatasheetVersion: 23-Oct-2000; PackageVersion: rev4.0, Apr-2002; PackageReference: 841B-02; Publisher: Altium Limited; PackageDescription: 80-Pin Quad Flat Pack 0.65 mm Pitch; Code_IPC: QFP65P1720X1720-80; ComponentLink1Description: Manufacturer Link; ComponentLink1URL: http://www.freescale.com/; ComponentLink2Description: Datasheet; ComponentLink2URL: http://www.freescale.com/files/microcontrollers/doc/data_sheet/MC68HC912BD32.pdf
footprint 841B-02_N (QFP, 80-Leads, Body 14 x 14mm, Pitch 0.65mm, IPC Medium Density)
footprint 841B-02_L (QFP, 80-Leads, Body 14 x 14mm, Pitch 0.65mm, IPC High Density)
footprint 841B-02_M (QFP, 80-Leads, Body 14 x 14mm, Pitch 0.65mm, IPC Low Density)
3D model MC68HC912-841B-02 (80-Pin Quad Flat Pack 0.65 mm Pitch)
pins: 1 PP5 (io), 2 PP4 (io), 3 PW3/PP3 (io), 4 PW2/PP2 (io), 5 PW1/PP1 (io), 6 PW0/PP0 (io), 7 IOC0/PT0 (io), 8 IOC1/PT1 (io), 9 IOC2/PT2 (io), 10 VDD (power), 11 VSS (power), 12 IOC3/PT3 (io), 13 IOC4/PT4 (io), 14 IOC5/PT5 (io), 15 IOC6/PT6 (io), 16 PAI/IOC7/PT7 (io), 17 SMODN/~{TAGHI}/BKGD (io), 18 ADDR0/DATA0/PB0 (io), 19 ADDR1/DATA1/PB1 (io), 20 ADDR2/DATA2/PB2 (io), 21 ADDR3/DATA3/PB3 (io), 22 ADDR4/DATA4/PB4 (io), 23 ADDR5/DATA5/PB5 (io), 24 ADDR6/DATA6/PB6 (io), 25 ADDR7/DATA7/PB7 (io), 26 ~{DBE}/PE7 (io), 27 MODB/IPIPE1/PE6 (io), 28 MODA/IPIPE0/PE5 (io), 29 ECLK/PE4 (io), 30 VSSX (power), 31 VDDX (power), 32 ~{RESET} (io), 33 EXTAL (in), 34 XTAL (out), 35 ~{LSTRB}/~{TAGLO}/PE3 (io), 36 R/~{W}/PE2 (io), 37 ~{IRQ}/PE1 (in), 38 ~{XIRQ}/PE0 (in), 39 ADDR8/DATA8/PA0 (io), 40 ADDR9/DATA9/PA1 (io), 41 ADDR10/DATA10/PA2 (io), 42 ADDR11/DATA11/PA3 (io), 43 ADDR12/DATA12/PA4 (io), 44 ADDR13/DATA13/PA5 (io), 45 ADDR14/DATA14/PA6 (io), 46 ADDR15/DATA15/PA7 (io), 47 VDD (power), 48 VSS (power), 49 VRH (in), 50 VRL (in), 51 PAD0/AN0 (in), 52 PAD1/AN1 (in), 53 PAD2/AN2 (in), 54 PAD3/AN3 (in), 55 PAD4/AN4 (in), 56 PAD5/AN5 (in), 57 PAD6/AN6 (in), 58 PAD7/AN7 (in), 59 VDDA (power), 60 VSSA (power), 61 PS0/RXD (io), 62 PS1/TXD (io), 63 PS2 (io), 64 PS3 (io), 65 PS4/SDI/MISO (io), 66 PS5/SDO/MOSI (io), 67 PS6/SCK (io), 68 PS7/~{CS}/~{SS} (io), 69 VFP (power), 70 DIVBYP (io), 71 PSBI5 (io), 72 PSBI4 (io), 73 PSBI3 (io), 74 PSBI2 (io), 75 TX (out), 76 RX (in), 77 VSSX (power), 78 VDDX (power), 79 PP7 (io), 80 PP6 (io)

## MC68HC912BD32FU10
designator U?
16-Bit Microcontroller; Note: Not recommended for new designs.; Published: 21-Mar-2003; LatestRevisionDate: 13-Apr-2006; LatestRevisionNote: IPC-7351 Footprint Added.; DatasheetVersion: 23-Oct-2000; PackageVersion: rev4.0, Apr-2002; PackageReference: 841B-02; Publisher: Altium Limited; PackageDescription: 80-Pin Quad Flat Pack 0.65 mm Pitch; Code_IPC: QFP65P1720X1720-80; ComponentLink1Description: Manufacturer Link; ComponentLink1URL: http://www.freescale.com/; ComponentLink2Description: Datasheet; ComponentLink2URL: http://www.freescale.com/files/microcontrollers/doc/data_sheet/MC68HC912BD32.pdf
footprint 841B-02_N (QFP, 80-Leads, Body 14 x 14mm, Pitch 0.65mm, IPC Medium Density)
footprint 841B-02_L (QFP, 80-Leads, Body 14 x 14mm, Pitch 0.65mm, IPC High Density)
footprint 841B-02_M (QFP, 80-Leads, Body 14 x 14mm, Pitch 0.65mm, IPC Low Density)
3D model MC68HC912-841B-02 (80-Pin Quad Flat Pack 0.65 mm Pitch)
pins: 1 PP5 (io), 2 PP4 (io), 3 PW3/PP3 (io), 4 PW2/PP2 (io), 5 PW1/PP1 (io), 6 PW0/PP0 (io), 7 IOC0/PT0 (io), 8 IOC1/PT1 (io), 9 IOC2/PT2 (io), 10 VDD (power), 11 VSS (power), 12 IOC3/PT3 (io), 13 IOC4/PT4 (io), 14 IOC5/PT5 (io), 15 IOC6/PT6 (io), 16 PAI/IOC7/PT7 (io), 17 SMODN/~{TAGHI}/BKGD (io), 18 ADDR0/DATA0/PB0 (io), 19 ADDR1/DATA1/PB1 (io), 20 ADDR2/DATA2/PB2 (io), 21 ADDR3/DATA3/PB3 (io), 22 ADDR4/DATA4/PB4 (io), 23 ADDR5/DATA5/PB5 (io), 24 ADDR6/DATA6/PB6 (io), 25 ADDR7/DATA7/PB7 (io), 26 ~{DBE}/PE7 (io), 27 MODB/IPIPE1/PE6 (io), 28 MODA/IPIPE0/PE5 (io), 29 ECLK/PE4 (io), 30 VSSX (power), 31 VDDX (power), 32 ~{RESET} (io), 33 EXTAL (in), 34 XTAL (out), 35 ~{LSTRB}/~{TAGLO}/PE3 (io), 36 R/~{W}/PE2 (io), 37 ~{IRQ}/PE1 (in), 38 ~{XIRQ}/PE0 (in), 39 ADDR8/DATA8/PA0 (io), 40 ADDR9/DATA9/PA1 (io), 41 ADDR10/DATA10/PA2 (io), 42 ADDR11/DATA11/PA3 (io), 43 ADDR12/DATA12/PA4 (io), 44 ADDR13/DATA13/PA5 (io), 45 ADDR14/DATA14/PA6 (io), 46 ADDR15/DATA15/PA7 (io), 47 VDD (power), 48 VSS (power), 49 VRH (in), 50 VRL (in), 51 PAD0/AN0 (in), 52 PAD1/AN1 (in), 53 PAD2/AN2 (in), 54 PAD3/AN3 (in), 55 PAD4/AN4 (in), 56 PAD5/AN5 (in), 57 PAD6/AN6 (in), 58 PAD7/AN7 (in), 59 VDDA (power), 60 VSSA (power), 61 PS0/RXD (io), 62 PS1/TXD (io), 63 PS2 (io), 64 PS3 (io), 65 PS4/SDI/MISO (io), 66 PS5/SDO/MOSI (io), 67 PS6/SCK (io), 68 PS7/~{CS}/~{SS} (io), 69 VFP (power), 70 DIVBYP (io), 71 PSBI5 (io), 72 PSBI4 (io), 73 PSBI3 (io), 74 PSBI2 (io), 75 TX (out), 76 RX (in), 77 VSSX (power), 78 VDDX (power), 79 PP7 (io), 80 PP6 (io)

## MC68HC912DG128ACPV
designator U?
16-Bit Microcontroller; DoNotConnect: Leave Pin 97 (TEST) Unconnected.; Published: 21-Mar-2003; LatestRevisionDate: 13-Apr-2006; LatestRevisionNote: IPC-7351 Footprint Added.; DatasheetVersion: 12-Jun-2001; PackageVersion: rev3.1, Nov-2000; PackageReference: 987-01; Publisher: Altium Limited; PackageDescription: 112-Pin Thin Quad Flat Pack 0.65 mm Pitch; ComponentLink1Description: Manufacturer Link; ComponentLink1URL: http://www.freescale.com/
footprint 987-01_N (Thin QFP, 112-Leads, Body 20 x 20mm, Pitch 0.65mm, IPC Medium Density)
footprint 987-01_L (Thin QFP, 112-Leads, Body 20 x 20mm, Pitch 0.65mm, IPC High Density)
footprint 987-01_M (Thin QFP, 112-Leads, Body 20 x 20mm, Pitch 0.65mm, IPC Low Density)
3D model MC68HC912-987-01 (112-Pin Thin Quad Flat Pack 0.65 mm Pitch)
pins: 1 PW2/PP2 (io), 2 PW1/PP1 (io), 3 PW0/PP0 (io), 4 IOC0/PT0 (io), 5 IOC1/PT1 (io), 6 IOC2/PT2 (io), 7 IOC3/PT3 (io), 8 KWJ7/PJ7 (io), 9 KWJ6/PJ6 (io), 10 KWJ5/PJ5 (io), 11 KWJ4/PJ4 (io), 12 VDD (power), 13 PK3 (io), 14 VSS (power), 15 IOC4/PT4 (io), 16 IOC5/PT5 (io), 17 IOC6/PT6 (io), 18 IOC7/PT7 (io), 19 KWJ3/PJ3 (io), 20 KWJ2/PJ2 (io), 21 KWJ1/PJ1 (io), 22 KWJ0/PJ0 (io), 23 SMODN/~{TAGHI}/BKGD (io), 24 ADDR0/DATA0/PB0 (io), 25 ADDR1/DATA1/PB1 (io), 26 ADDR2/DATA2/PB2 (io), 27 ADDR3/DATA3/PB3 (io), 28 ADDR4/DATA4/PB4 (io), 29 ADDR5/DATA5/PB5 (io), 30 ADDR6/DATA6/PB6 (io), 31 ADDR7/DATA7/PB7 (io), 32 KWH7/PH7 (io), 33 KWH6/PH6 (io), 34 KWH5/PH5 (io), 35 KWH4/PH4 (io), 36 ~{ECLK}/~{DBE}/CAL/PE7 (io), 37 CGMTST/MODB/IPIPE1/PE6 (io), 38 MODA/IPIPE0/PE5 (io), 39 ECLK/PE4 (io), 40 VSSX (power), 41 VSTBY (power), 42 VDDX (power), 43 VDDPLL (power), 44 XFC, 45 VSSPLL (power), 46 ~{RESET} (io), 47 EXTAL (in), 48 XTAL (out), 49 KWH3/PH3 (io), 50 KWH2/PH2 (io), 51 KWH1/PH1 (io), 52 KWH0/PH0 (io), 53 ~{LSTRB}/~{TAGLO}/PE3 (io), 54 R/~{W}/PE2 (io), 55 ~{IRQ}/PE1 (in), 56 ~{XIRQ}/PE0 (in), 57 PA0/ADDR8/DATA8/DATA0 (io), 58 PA1/ADDR9/DATA9/DATA1 (io), 59 PA2/ADDR10/DATA10/DATA2 (io), 60 PA3/ADDR11/DATA11/DATA3 (io), 61 PA4/ADDR12/DATA12/DATA4 (io), 62 PA5/ADDR13/DATA13/DATA5 (io), 63 PA6/ADDR14/DATA14/DATA6 (io), 64 PA7/ADDR15/DATA15/DATA7 (io), 65 VDD (power), 66 VSS (power), 67 VRH0 (in), 68 VRL0 (in), 69 PAD0/AN0 (in), 70 PAD10/AN10 (in), 71 PAD1/AN1 (in), 72 PAD11/AN11 (in), 73 PAD2/AN2 (in), 74 PAD12/AN12 (in), 75 PAD3/AN3 (in), 76 PAD13/AN13 (in), 77 PAD4/AN4 (in), 78 PAD14/AN14 (in), 79 PAD5/AN5 (in), 80 PAD15/AN15 (in), 81 PAD6/AN6 (in), 82 PAD16/AN16 (in), 83 PAD7/AN7 (in), 84 PAD17/AN17 (in), 85 VDDA (power), 86 VRH1 (in), 87 VRL1 (in), 88 VSSA (power), 89 PS0/RXD0 (io), 90 PS1/TXD0 (io), 91 PS2/RXD1 (io), 92 PS3/TXD1 (io), 93 PS4/SDI/MISO (io), 94 PS5/SDO/MOSI (io), 95 PS6/SCK (io), 96 PS7/~{SS} (io), 97 TEST (in), 98 PIB7/SCL (io), 99 PIB6/SDA (io), 100 PIB5 (io), 101 PIB4 (io), 102 TXCAN1 (out), 103 RXCAN1 (in), 104 TXCAN0 (out), 105 RXCAN0 (in), 106 VSSX (power), 107 VDDX (power), 108 PK7/~{ECS} (io), 109 PK2/PIX2 (io), 110 PK1/PIX1 (io), 111 PK0/PIX0 (io), 112 PW3/PP3 (io)

## MC68HC912DG128AMPV
designator U?
16-Bit Microcontroller; DoNotConnect: Leave Pin 97 (TEST) Unconnected.; Published: 21-Mar-2003; LatestRevisionDate: 13-Apr-2006; LatestRevisionNote: IPC-7351 Footprint Added.; DatasheetVersion: 12-Jun-2001; PackageVersion: rev3.1, Nov-2000; PackageReference: 987-01; Publisher: Altium Limited; PackageDescription: 112-Pin Thin Quad Flat Pack 0.65 mm Pitch; ComponentLink1Description: Manufacturer Link; ComponentLink1URL: http://www.freescale.com/
footprint 987-01_N (Thin QFP, 112-Leads, Body 20 x 20mm, Pitch 0.65mm, IPC Medium Density)
footprint 987-01_L (Thin QFP, 112-Leads, Body 20 x 20mm, Pitch 0.65mm, IPC High Density)
footprint 987-01_M (Thin QFP, 112-Leads, Body 20 x 20mm, Pitch 0.65mm, IPC Low Density)
3D model MC68HC912-987-01 (112-Pin Thin Quad Flat Pack 0.65 mm Pitch)
pins: 1 PW2/PP2 (io), 2 PW1/PP1 (io), 3 PW0/PP0 (io), 4 IOC0/PT0 (io), 5 IOC1/PT1 (io), 6 IOC2/PT2 (io), 7 IOC3/PT3 (io), 8 KWJ7/PJ7 (io), 9 KWJ6/PJ6 (io), 10 KWJ5/PJ5 (io), 11 KWJ4/PJ4 (io), 12 VDD (power), 13 PK3 (io), 14 VSS (power), 15 IOC4/PT4 (io), 16 IOC5/PT5 (io), 17 IOC6/PT6 (io), 18 IOC7/PT7 (io), 19 KWJ3/PJ3 (io), 20 KWJ2/PJ2 (io), 21 KWJ1/PJ1 (io), 22 KWJ0/PJ0 (io), 23 SMODN/~{TAGHI}/BKGD (io), 24 ADDR0/DATA0/PB0 (io), 25 ADDR1/DATA1/PB1 (io), 26 ADDR2/DATA2/PB2 (io), 27 ADDR3/DATA3/PB3 (io), 28 ADDR4/DATA4/PB4 (io), 29 ADDR5/DATA5/PB5 (io), 30 ADDR6/DATA6/PB6 (io), 31 ADDR7/DATA7/PB7 (io), 32 KWH7/PH7 (io), 33 KWH6/PH6 (io), 34 KWH5/PH5 (io), 35 KWH4/PH4 (io), 36 ~{ECLK}/~{DBE}/CAL/PE7 (io), 37 CGMTST/MODB/IPIPE1/PE6 (io), 38 MODA/IPIPE0/PE5 (io), 39 ECLK/PE4 (io), 40 VSSX (power), 41 VSTBY (power), 42 VDDX (power), 43 VDDPLL (power), 44 XFC, 45 VSSPLL (power), 46 ~{RESET} (io), 47 EXTAL (in), 48 XTAL (out), 49 KWH3/PH3 (io), 50 KWH2/PH2 (io), 51 KWH1/PH1 (io), 52 KWH0/PH0 (io), 53 ~{LSTRB}/~{TAGLO}/PE3 (io), 54 R/~{W}/PE2 (io), 55 ~{IRQ}/PE1 (in), 56 ~{XIRQ}/PE0 (in), 57 PA0/ADDR8/DATA8/DATA0 (io), 58 PA1/ADDR9/DATA9/DATA1 (io), 59 PA2/ADDR10/DATA10/DATA2 (io), 60 PA3/ADDR11/DATA11/DATA3 (io), 61 PA4/ADDR12/DATA12/DATA4 (io), 62 PA5/ADDR13/DATA13/DATA5 (io), 63 PA6/ADDR14/DATA14/DATA6 (io), 64 PA7/ADDR15/DATA15/DATA7 (io), 65 VDD (power), 66 VSS (power), 67 VRH0 (in), 68 VRL0 (in), 69 PAD0/AN0 (in), 70 PAD10/AN10 (in), 71 PAD1/AN1 (in), 72 PAD11/AN11 (in), 73 PAD2/AN2 (in), 74 PAD12/AN12 (in), 75 PAD3/AN3 (in), 76 PAD13/AN13 (in), 77 PAD4/AN4 (in), 78 PAD14/AN14 (in), 79 PAD5/AN5 (in), 80 PAD15/AN15 (in), 81 PAD6/AN6 (in), 82 PAD16/AN16 (in), 83 PAD7/AN7 (in), 84 PAD17/AN17 (in), 85 VDDA (power), 86 VRH1 (in), 87 VRL1 (in), 88 VSSA (power), 89 PS0/RXD0 (io), 90 PS1/TXD0 (io), 91 PS2/RXD1 (io), 92 PS3/TXD1 (io), 93 PS4/SDI/MISO (io), 94 PS5/SDO/MOSI (io), 95 PS6/SCK (io), 96 PS7/~{SS} (io), 97 TEST (in), 98 PIB7/SCL (io), 99 PIB6/SDA (io), 100 PIB5 (io), 101 PIB4 (io), 102 TXCAN1 (out), 103 RXCAN1 (in), 104 TXCAN0 (out), 105 RXCAN0 (in), 106 VSSX (power), 107 VDDX (power), 108 PK7/~{ECS} (io), 109 PK2/PIX2 (io), 110 PK1/PIX1 (io), 111 PK0/PIX0 (io), 112 PW3/PP3 (io)

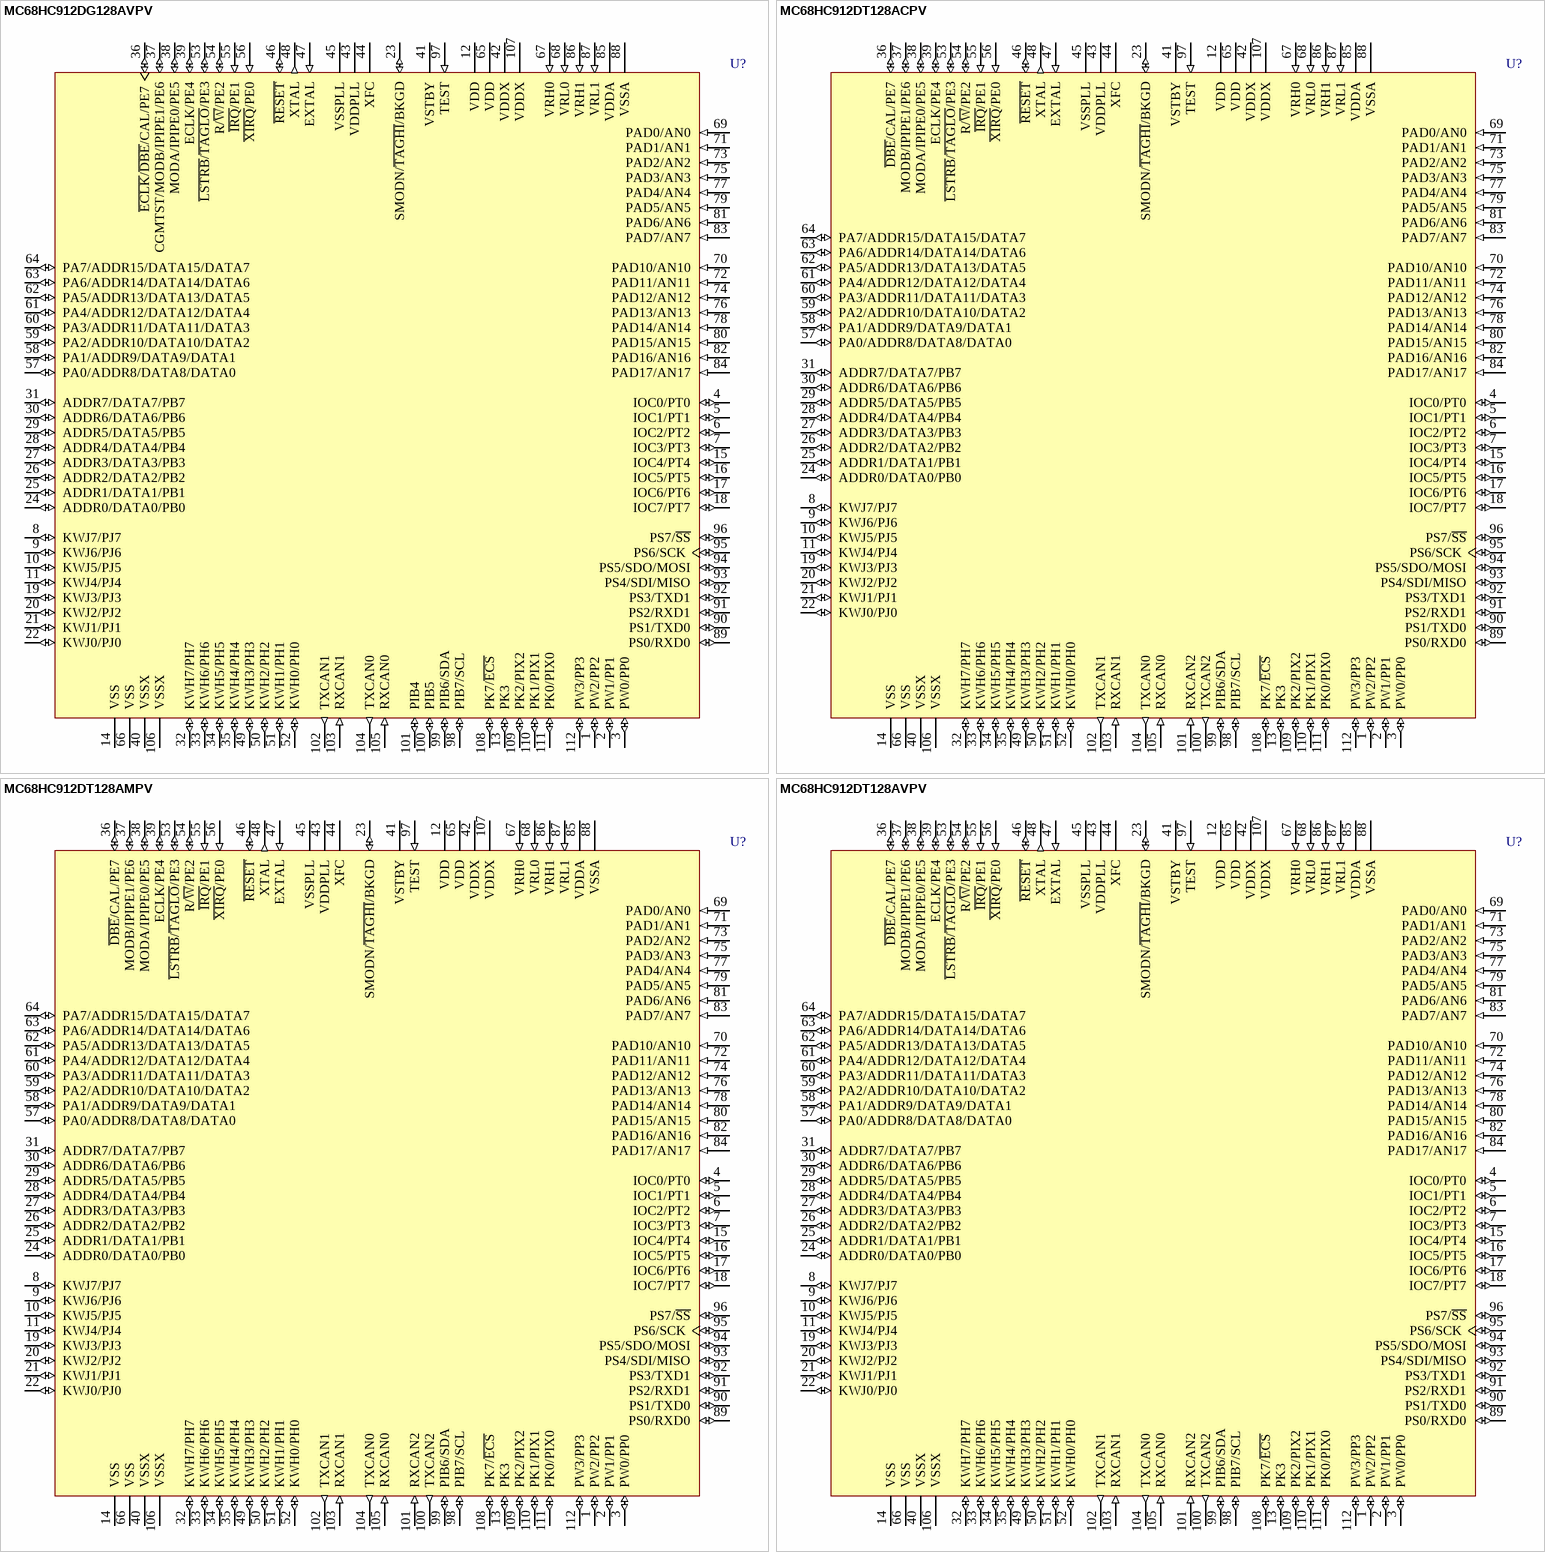
[diagram p46: symbols MC68HC912DG128AVPV to MC68HC912DT128AVPV]

## MC68HC912DG128AVPV
designator U?
16-Bit Microcontroller; DoNotConnect: Leave Pin 97 (TEST) Unconnected.; Published: 21-Mar-2003; LatestRevisionDate: 13-Apr-2006; LatestRevisionNote: IPC-7351 Footprint Added.; DatasheetVersion: 12-Jun-2001; PackageVersion: rev3.1, Nov-2000; PackageReference: 987-01; Publisher: Altium Limited; PackageDescription: 112-Pin Thin Quad Flat Pack 0.65 mm Pitch; ComponentLink1Description: Manufacturer Link; ComponentLink1URL: http://www.freescale.com/
footprint 987-01_N (Thin QFP, 112-Leads, Body 20 x 20mm, Pitch 0.65mm, IPC Medium Density)
footprint 987-01_L (Thin QFP, 112-Leads, Body 20 x 20mm, Pitch 0.65mm, IPC High Density)
footprint 987-01_M (Thin QFP, 112-Leads, Body 20 x 20mm, Pitch 0.65mm, IPC Low Density)
3D model MC68HC912-987-01 (112-Pin Thin Quad Flat Pack 0.65 mm Pitch)
pins: 1 PW2/PP2 (io), 2 PW1/PP1 (io), 3 PW0/PP0 (io), 4 IOC0/PT0 (io), 5 IOC1/PT1 (io), 6 IOC2/PT2 (io), 7 IOC3/PT3 (io), 8 KWJ7/PJ7 (io), 9 KWJ6/PJ6 (io), 10 KWJ5/PJ5 (io), 11 KWJ4/PJ4 (io), 12 VDD (power), 13 PK3 (io), 14 VSS (power), 15 IOC4/PT4 (io), 16 IOC5/PT5 (io), 17 IOC6/PT6 (io), 18 IOC7/PT7 (io), 19 KWJ3/PJ3 (io), 20 KWJ2/PJ2 (io), 21 KWJ1/PJ1 (io), 22 KWJ0/PJ0 (io), 23 SMODN/~{TAGHI}/BKGD (io), 24 ADDR0/DATA0/PB0 (io), 25 ADDR1/DATA1/PB1 (io), 26 ADDR2/DATA2/PB2 (io), 27 ADDR3/DATA3/PB3 (io), 28 ADDR4/DATA4/PB4 (io), 29 ADDR5/DATA5/PB5 (io), 30 ADDR6/DATA6/PB6 (io), 31 ADDR7/DATA7/PB7 (io), 32 KWH7/PH7 (io), 33 KWH6/PH6 (io), 34 KWH5/PH5 (io), 35 KWH4/PH4 (io), 36 ~{ECLK}/~{DBE}/CAL/PE7 (io), 37 CGMTST/MODB/IPIPE1/PE6 (io), 38 MODA/IPIPE0/PE5 (io), 39 ECLK/PE4 (io), 40 VSSX (power), 41 VSTBY (power), 42 VDDX (power), 43 VDDPLL (power), 44 XFC, 45 VSSPLL (power), 46 ~{RESET} (io), 47 EXTAL (in), 48 XTAL (out), 49 KWH3/PH3 (io), 50 KWH2/PH2 (io), 51 KWH1/PH1 (io), 52 KWH0/PH0 (io), 53 ~{LSTRB}/~{TAGLO}/PE3 (io), 54 R/~{W}/PE2 (io), 55 ~{IRQ}/PE1 (in), 56 ~{XIRQ}/PE0 (in), 57 PA0/ADDR8/DATA8/DATA0 (io), 58 PA1/ADDR9/DATA9/DATA1 (io), 59 PA2/ADDR10/DATA10/DATA2 (io), 60 PA3/ADDR11/DATA11/DATA3 (io), 61 PA4/ADDR12/DATA12/DATA4 (io), 62 PA5/ADDR13/DATA13/DATA5 (io), 63 PA6/ADDR14/DATA14/DATA6 (io), 64 PA7/ADDR15/DATA15/DATA7 (io), 65 VDD (power), 66 VSS (power), 67 VRH0 (in), 68 VRL0 (in), 69 PAD0/AN0 (in), 70 PAD10/AN10 (in), 71 PAD1/AN1 (in), 72 PAD11/AN11 (in), 73 PAD2/AN2 (in), 74 PAD12/AN12 (in), 75 PAD3/AN3 (in), 76 PAD13/AN13 (in), 77 PAD4/AN4 (in), 78 PAD14/AN14 (in), 79 PAD5/AN5 (in), 80 PAD15/AN15 (in), 81 PAD6/AN6 (in), 82 PAD16/AN16 (in), 83 PAD7/AN7 (in), 84 PAD17/AN17 (in), 85 VDDA (power), 86 VRH1 (in), 87 VRL1 (in), 88 VSSA (power), 89 PS0/RXD0 (io), 90 PS1/TXD0 (io), 91 PS2/RXD1 (io), 92 PS3/TXD1 (io), 93 PS4/SDI/MISO (io), 94 PS5/SDO/MOSI (io), 95 PS6/SCK (io), 96 PS7/~{SS} (io), 97 TEST (in), 98 PIB7/SCL (io), 99 PIB6/SDA (io), 100 PIB5 (io), 101 PIB4 (io), 102 TXCAN1 (out), 103 RXCAN1 (in), 104 TXCAN0 (out), 105 RXCAN0 (in), 106 VSSX (power), 107 VDDX (power), 108 PK7/~{ECS} (io), 109 PK2/PIX2 (io), 110 PK1/PIX1 (io), 111 PK0/PIX0 (io), 112 PW3/PP3 (io)

## MC68HC912DT128ACPV
designator U?
16-Bit Microcontroller; DoNotConnect: Leave Pin 97 (TEST) Unconnected.; Published: 21-Mar-2003; LatestRevisionDate: 13-Apr-2006; LatestRevisionNote: IPC-7351 Footprint Added.; DatasheetVersion: 12-Jun-2001; PackageVersion: rev3.1, Nov-2000; PackageReference: 987-01; Publisher: Altium Limited; PackageDescription: 112-Pin Thin Quad Flat Pack 0.65 mm Pitch; ComponentLink1Description: Manufacturer Link; ComponentLink1URL: http://www.freescale.com/
footprint 987-01_N (Thin QFP, 112-Leads, Body 20 x 20mm, Pitch 0.65mm, IPC Medium Density)
footprint 987-01_L (Thin QFP, 112-Leads, Body 20 x 20mm, Pitch 0.65mm, IPC High Density)
footprint 987-01_M (Thin QFP, 112-Leads, Body 20 x 20mm, Pitch 0.65mm, IPC Low Density)
3D model MC68HC912-987-01 (112-Pin Thin Quad Flat Pack 0.65 mm Pitch)
pins: 1 PW2/PP2 (io), 2 PW1/PP1 (io), 3 PW0/PP0 (io), 4 IOC0/PT0 (io), 5 IOC1/PT1 (io), 6 IOC2/PT2 (io), 7 IOC3/PT3 (io), 8 KWJ7/PJ7 (io), 9 KWJ6/PJ6 (io), 10 KWJ5/PJ5 (io), 11 KWJ4/PJ4 (io), 12 VDD (power), 13 PK3 (io), 14 VSS (power), 15 IOC4/PT4 (io), 16 IOC5/PT5 (io), 17 IOC6/PT6 (io), 18 IOC7/PT7 (io), 19 KWJ3/PJ3 (io), 20 KWJ2/PJ2 (io), 21 KWJ1/PJ1 (io), 22 KWJ0/PJ0 (io), 23 SMODN/~{TAGHI}/BKGD (io), 24 ADDR0/DATA0/PB0 (io), 25 ADDR1/DATA1/PB1 (io), 26 ADDR2/DATA2/PB2 (io), 27 ADDR3/DATA3/PB3 (io), 28 ADDR4/DATA4/PB4 (io), 29 ADDR5/DATA5/PB5 (io), 30 ADDR6/DATA6/PB6 (io), 31 ADDR7/DATA7/PB7 (io), 32 KWH7/PH7 (io), 33 KWH6/PH6 (io), 34 KWH5/PH5 (io), 35 KWH4/PH4 (io), 36 ~{DBE}/CAL/PE7 (io), 37 MODB/IPIPE1/PE6 (io), 38 MODA/IPIPE0/PE5 (io), 39 ECLK/PE4 (io), 40 VSSX (power), 41 VSTBY (power), 42 VDDX (power), 43 VDDPLL (power), 44 XFC, 45 VSSPLL (power), 46 ~{RESET} (io), 47 EXTAL (in), 48 XTAL (out), 49 KWH3/PH3 (io), 50 KWH2/PH2 (io), 51 KWH1/PH1 (io), 52 KWH0/PH0 (io), 53 ~{LSTRB}/~{TAGLO}/PE3 (io), 54 R/~{W}/PE2 (io), 55 ~{IRQ}/PE1 (in), 56 ~{XIRQ}/PE0 (in), 57 PA0/ADDR8/DATA8/DATA0 (io), 58 PA1/ADDR9/DATA9/DATA1 (io), 59 PA2/ADDR10/DATA10/DATA2 (io), 60 PA3/ADDR11/DATA11/DATA3 (io), 61 PA4/ADDR12/DATA12/DATA4 (io), 62 PA5/ADDR13/DATA13/DATA5 (io), 63 PA6/ADDR14/DATA14/DATA6 (io), 64 PA7/ADDR15/DATA15/DATA7 (io), 65 VDD (power), 66 VSS (power), 67 VRH0 (in), 68 VRL0 (in), 69 PAD0/AN0 (in), 70 PAD10/AN10 (in), 71 PAD1/AN1 (in), 72 PAD11/AN11 (in), 73 PAD2/AN2 (in), 74 PAD12/AN12 (in), 75 PAD3/AN3 (in), 76 PAD13/AN13 (in), 77 PAD4/AN4 (in), 78 PAD14/AN14 (in), 79 PAD5/AN5 (in), 80 PAD15/AN15 (in), 81 PAD6/AN6 (in), 82 PAD16/AN16 (in), 83 PAD7/AN7 (in), 84 PAD17/AN17 (in), 85 VDDA (power), 86 VRH1 (in), 87 VRL1 (in), 88 VSSA (power), 89 PS0/RXD0 (io), 90 PS1/TXD0 (io), 91 PS2/RXD1 (io), 92 PS3/TXD1 (io), 93 PS4/SDI/MISO (io), 94 PS5/SDO/MOSI (io), 95 PS6/SCK (io), 96 PS7/~{SS} (io), 97 TEST (in), 98 PIB7/SCL (io), 99 PIB6/SDA (io), 100 TXCAN2 (out), 101 RXCAN2 (in), 102 TXCAN1 (out), 103 RXCAN1 (in), 104 TXCAN0 (out), 105 RXCAN0 (in), 106 VSSX (power), 107 VDDX (power), 108 PK7/~{ECS} (io), 109 PK2/PIX2 (io), 110 PK1/PIX1 (io), 111 PK0/PIX0 (io), 112 PW3/PP3 (io)

## MC68HC912DT128AMPV
designator U?
16-Bit Microcontroller; DoNotConnect: Leave Pin 97 (TEST) Unconnected.; Published: 21-Mar-2003; LatestRevisionDate: 13-Apr-2006; LatestRevisionNote: IPC-7351 Footprint Added.; DatasheetVersion: 12-Jun-2001; PackageVersion: rev3.1, Nov-2000; PackageReference: 987-01; Publisher: Altium Limited; PackageDescription: 112-Pin Thin Quad Flat Pack 0.65 mm Pitch; ComponentLink1Description: Manufacturer Link; ComponentLink1URL: http://www.freescale.com/
footprint 987-01_N (Thin QFP, 112-Leads, Body 20 x 20mm, Pitch 0.65mm, IPC Medium Density)
footprint 987-01_L (Thin QFP, 112-Leads, Body 20 x 20mm, Pitch 0.65mm, IPC High Density)
footprint 987-01_M (Thin QFP, 112-Leads, Body 20 x 20mm, Pitch 0.65mm, IPC Low Density)
3D model MC68HC912-987-01 (112-Pin Thin Quad Flat Pack 0.65 mm Pitch)
pins: 1 PW2/PP2 (io), 2 PW1/PP1 (io), 3 PW0/PP0 (io), 4 IOC0/PT0 (io), 5 IOC1/PT1 (io), 6 IOC2/PT2 (io), 7 IOC3/PT3 (io), 8 KWJ7/PJ7 (io), 9 KWJ6/PJ6 (io), 10 KWJ5/PJ5 (io), 11 KWJ4/PJ4 (io), 12 VDD (power), 13 PK3 (io), 14 VSS (power), 15 IOC4/PT4 (io), 16 IOC5/PT5 (io), 17 IOC6/PT6 (io), 18 IOC7/PT7 (io), 19 KWJ3/PJ3 (io), 20 KWJ2/PJ2 (io), 21 KWJ1/PJ1 (io), 22 KWJ0/PJ0 (io), 23 SMODN/~{TAGHI}/BKGD (io), 24 ADDR0/DATA0/PB0 (io), 25 ADDR1/DATA1/PB1 (io), 26 ADDR2/DATA2/PB2 (io), 27 ADDR3/DATA3/PB3 (io), 28 ADDR4/DATA4/PB4 (io), 29 ADDR5/DATA5/PB5 (io), 30 ADDR6/DATA6/PB6 (io), 31 ADDR7/DATA7/PB7 (io), 32 KWH7/PH7 (io), 33 KWH6/PH6 (io), 34 KWH5/PH5 (io), 35 KWH4/PH4 (io), 36 ~{DBE}/CAL/PE7 (io), 37 MODB/IPIPE1/PE6 (io), 38 MODA/IPIPE0/PE5 (io), 39 ECLK/PE4 (io), 40 VSSX (power), 41 VSTBY (power), 42 VDDX (power), 43 VDDPLL (power), 44 XFC, 45 VSSPLL (power), 46 ~{RESET} (io), 47 EXTAL (in), 48 XTAL (out), 49 KWH3/PH3 (io), 50 KWH2/PH2 (io), 51 KWH1/PH1 (io), 52 KWH0/PH0 (io), 53 ~{LSTRB}/~{TAGLO}/PE3 (io), 54 R/~{W}/PE2 (io), 55 ~{IRQ}/PE1 (in), 56 ~{XIRQ}/PE0 (in), 57 PA0/ADDR8/DATA8/DATA0 (io), 58 PA1/ADDR9/DATA9/DATA1 (io), 59 PA2/ADDR10/DATA10/DATA2 (io), 60 PA3/ADDR11/DATA11/DATA3 (io), 61 PA4/ADDR12/DATA12/DATA4 (io), 62 PA5/ADDR13/DATA13/DATA5 (io), 63 PA6/ADDR14/DATA14/DATA6 (io), 64 PA7/ADDR15/DATA15/DATA7 (io), 65 VDD (power), 66 VSS (power), 67 VRH0 (in), 68 VRL0 (in), 69 PAD0/AN0 (in), 70 PAD10/AN10 (in), 71 PAD1/AN1 (in), 72 PAD11/AN11 (in), 73 PAD2/AN2 (in), 74 PAD12/AN12 (in), 75 PAD3/AN3 (in), 76 PAD13/AN13 (in), 77 PAD4/AN4 (in), 78 PAD14/AN14 (in), 79 PAD5/AN5 (in), 80 PAD15/AN15 (in), 81 PAD6/AN6 (in), 82 PAD16/AN16 (in), 83 PAD7/AN7 (in), 84 PAD17/AN17 (in), 85 VDDA (power), 86 VRH1 (in), 87 VRL1 (in), 88 VSSA (power), 89 PS0/RXD0 (io), 90 PS1/TXD0 (io), 91 PS2/RXD1 (io), 92 PS3/TXD1 (io), 93 PS4/SDI/MISO (io), 94 PS5/SDO/MOSI (io), 95 PS6/SCK (io), 96 PS7/~{SS} (io), 97 TEST (in), 98 PIB7/SCL (io), 99 PIB6/SDA (io), 100 TXCAN2 (out), 101 RXCAN2 (in), 102 TXCAN1 (out), 103 RXCAN1 (in), 104 TXCAN0 (out), 105 RXCAN0 (in), 106 VSSX (power), 107 VDDX (power), 108 PK7/~{ECS} (io), 109 PK2/PIX2 (io), 110 PK1/PIX1 (io), 111 PK0/PIX0 (io), 112 PW3/PP3 (io)

## MC68HC912DT128AVPV
designator U?
16-Bit Microcontroller; DoNotConnect: Leave Pin 97 (TEST) Unconnected.; Published: 21-Mar-2003; LatestRevisionDate: 13-Apr-2006; LatestRevisionNote: IPC-7351 Footprint Added.; DatasheetVersion: 12-Jun-2001; PackageVersion: rev3.1, Nov-2000; PackageReference: 987-01; Publisher: Altium Limited; PackageDescription: 112-Pin Thin Quad Flat Pack 0.65 mm Pitch; ComponentLink1Description: Manufacturer Link; ComponentLink1URL: http://www.freescale.com/
footprint 987-01_N (Thin QFP, 112-Leads, Body 20 x 20mm, Pitch 0.65mm, IPC Medium Density)
footprint 987-01_L (Thin QFP, 112-Leads, Body 20 x 20mm, Pitch 0.65mm, IPC High Density)
footprint 987-01_M (Thin QFP, 112-Leads, Body 20 x 20mm, Pitch 0.65mm, IPC Low Density)
3D model MC68HC912-987-01 (112-Pin Thin Quad Flat Pack 0.65 mm Pitch)
pins: 1 PW2/PP2 (io), 2 PW1/PP1 (io), 3 PW0/PP0 (io), 4 IOC0/PT0 (io), 5 IOC1/PT1 (io), 6 IOC2/PT2 (io), 7 IOC3/PT3 (io), 8 KWJ7/PJ7 (io), 9 KWJ6/PJ6 (io), 10 KWJ5/PJ5 (io), 11 KWJ4/PJ4 (io), 12 VDD (power), 13 PK3 (io), 14 VSS (power), 15 IOC4/PT4 (io), 16 IOC5/PT5 (io), 17 IOC6/PT6 (io), 18 IOC7/PT7 (io), 19 KWJ3/PJ3 (io), 20 KWJ2/PJ2 (io), 21 KWJ1/PJ1 (io), 22 KWJ0/PJ0 (io), 23 SMODN/~{TAGHI}/BKGD (io), 24 ADDR0/DATA0/PB0 (io), 25 ADDR1/DATA1/PB1 (io), 26 ADDR2/DATA2/PB2 (io), 27 ADDR3/DATA3/PB3 (io), 28 ADDR4/DATA4/PB4 (io), 29 ADDR5/DATA5/PB5 (io), 30 ADDR6/DATA6/PB6 (io), 31 ADDR7/DATA7/PB7 (io), 32 KWH7/PH7 (io), 33 KWH6/PH6 (io), 34 KWH5/PH5 (io), 35 KWH4/PH4 (io), 36 ~{DBE}/CAL/PE7 (io), 37 MODB/IPIPE1/PE6 (io), 38 MODA/IPIPE0/PE5 (io), 39 ECLK/PE4 (io), 40 VSSX (power), 41 VSTBY (power), 42 VDDX (power), 43 VDDPLL (power), 44 XFC, 45 VSSPLL (power), 46 ~{RESET} (io), 47 EXTAL (in), 48 XTAL (out), 49 KWH3/PH3 (io), 50 KWH2/PH2 (io), 51 KWH1/PH1 (io), 52 KWH0/PH0 (io), 53 ~{LSTRB}/~{TAGLO}/PE3 (io), 54 R/~{W}/PE2 (io), 55 ~{IRQ}/PE1 (in), 56 ~{XIRQ}/PE0 (in), 57 PA0/ADDR8/DATA8/DATA0 (io), 58 PA1/ADDR9/DATA9/DATA1 (io), 59 PA2/ADDR10/DATA10/DATA2 (io), 60 PA3/ADDR11/DATA11/DATA3 (io), 61 PA4/ADDR12/DATA12/DATA4 (io), 62 PA5/ADDR13/DATA13/DATA5 (io), 63 PA6/ADDR14/DATA14/DATA6 (io), 64 PA7/ADDR15/DATA15/DATA7 (io), 65 VDD (power), 66 VSS (power), 67 VRH0 (in), 68 VRL0 (in), 69 PAD0/AN0 (in), 70 PAD10/AN10 (in), 71 PAD1/AN1 (in), 72 PAD11/AN11 (in), 73 PAD2/AN2 (in), 74 PAD12/AN12 (in), 75 PAD3/AN3 (in), 76 PAD13/AN13 (in), 77 PAD4/AN4 (in), 78 PAD14/AN14 (in), 79 PAD5/AN5 (in), 80 PAD15/AN15 (in), 81 PAD6/AN6 (in), 82 PAD16/AN16 (in), 83 PAD7/AN7 (in), 84 PAD17/AN17 (in), 85 VDDA (power), 86 VRH1 (in), 87 VRL1 (in), 88 VSSA (power), 89 PS0/RXD0 (io), 90 PS1/TXD0 (io), 91 PS2/RXD1 (io), 92 PS3/TXD1 (io), 93 PS4/SDI/MISO (io), 94 PS5/SDO/MOSI (io), 95 PS6/SCK (io), 96 PS7/~{SS} (io), 97 TEST (in), 98 PIB7/SCL (io), 99 PIB6/SDA (io), 100 TXCAN2 (out), 101 RXCAN2 (in), 102 TXCAN1 (out), 103 RXCAN1 (in), 104 TXCAN0 (out), 105 RXCAN0 (in), 106 VSSX (power), 107 VDDX (power), 108 PK7/~{ECS} (io), 109 PK2/PIX2 (io), 110 PK1/PIX1 (io), 111 PK0/PIX0 (io), 112 PW3/PP3 (io)

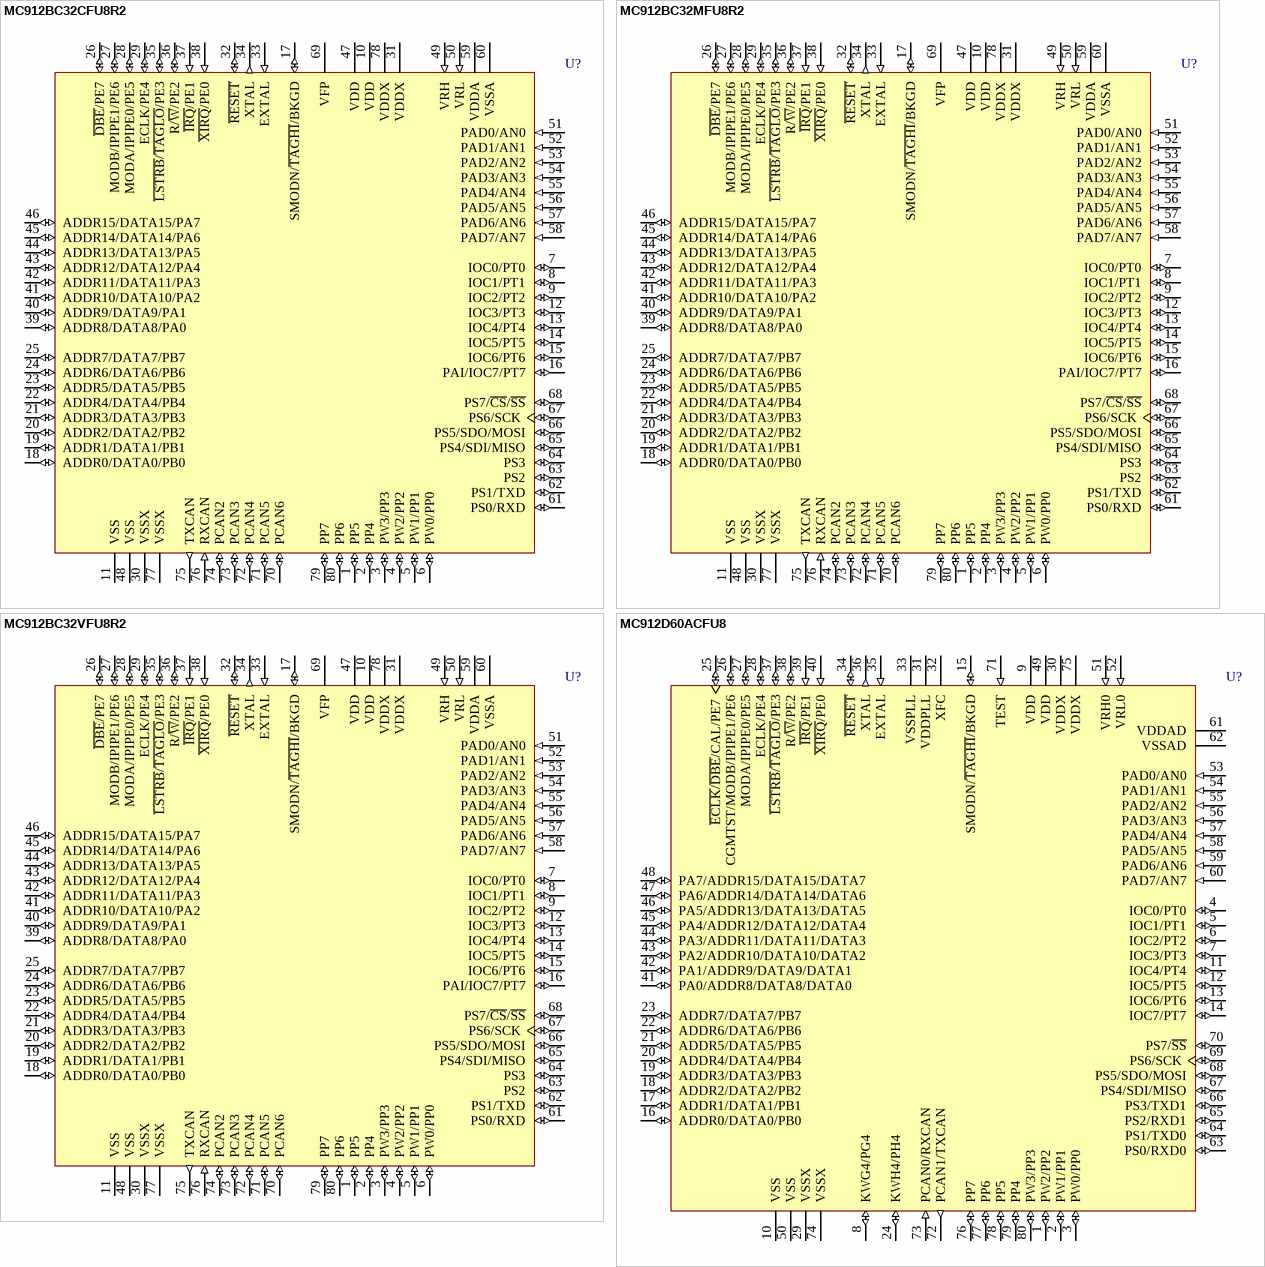
[diagram p47: symbols MC912BC32CFU8R2 to MC912D60ACFU8]

## MC912BC32CFU8R2
designator U?
16-Bit Microcontroller; Published: 21-Mar-2003; LatestRevisionDate: 13-Apr-2006; LatestRevisionNote: IPC-7351 Footprint Added.; DatasheetVersion: 17-Apr-2002; PackageVersion: rev4.0, Apr-2002; PackageReference: 841B-02; Publisher: Altium Limited; PackageDescription: 80-Pin Quad Flat Pack 0.65 mm Pitch; Code_IPC: QFP65P1720X1720-80; ComponentLink1Description: Manufacturer Link; ComponentLink1URL: http://www.freescale.com/; ComponentLink2Description: Datasheet; ComponentLink2URL: http://www.freescale.com/files/microcontrollers/doc/data_sheet/M68HC12B.pdf
footprint 841B-02_N (QFP, 80-Leads, Body 14 x 14mm, Pitch 0.65mm, IPC Medium Density)
footprint 841B-02_L (QFP, 80-Leads, Body 14 x 14mm, Pitch 0.65mm, IPC High Density)
footprint 841B-02_M (QFP, 80-Leads, Body 14 x 14mm, Pitch 0.65mm, IPC Low Density)
3D model MC912-841B (80-Pin Quad Flat Pack 0.65 mm Pitch)
pins: 1 PP5 (io), 2 PP4 (io), 3 PW3/PP3 (io), 4 PW2/PP2 (io), 5 PW1/PP1 (io), 6 PW0/PP0 (io), 7 IOC0/PT0 (io), 8 IOC1/PT1 (io), 9 IOC2/PT2 (io), 10 VDD (power), 11 VSS (power), 12 IOC3/PT3 (io), 13 IOC4/PT4 (io), 14 IOC5/PT5 (io), 15 IOC6/PT6 (io), 16 PAI/IOC7/PT7 (io), 17 SMODN/~{TAGHI}/BKGD (io), 18 ADDR0/DATA0/PB0 (io), 19 ADDR1/DATA1/PB1 (io), 20 ADDR2/DATA2/PB2 (io), 21 ADDR3/DATA3/PB3 (io), 22 ADDR4/DATA4/PB4 (io), 23 ADDR5/DATA5/PB5 (io), 24 ADDR6/DATA6/PB6 (io), 25 ADDR7/DATA7/PB7 (io), 26 ~{DBE}/PE7 (io), 27 MODB/IPIPE1/PE6 (io), 28 MODA/IPIPE0/PE5 (io), 29 ECLK/PE4 (io), 30 VSSX (power), 31 VDDX (power), 32 ~{RESET} (io), 33 EXTAL (in), 34 XTAL (out), 35 ~{LSTRB}/~{TAGLO}/PE3 (io), 36 R/~{W}/PE2 (io), 37 ~{IRQ}/PE1 (in), 38 ~{XIRQ}/PE0 (in), 39 ADDR8/DATA8/PA0 (io), 40 ADDR9/DATA9/PA1 (io), 41 ADDR10/DATA10/PA2 (io), 42 ADDR11/DATA11/PA3 (io), 43 ADDR12/DATA12/PA4 (io), 44 ADDR13/DATA13/PA5 (io), 45 ADDR14/DATA14/PA6 (io), 46 ADDR15/DATA15/PA7 (io), 47 VDD (power), 48 VSS (power), 49 VRH (in), 50 VRL (in), 51 PAD0/AN0 (in), 52 PAD1/AN1 (in), 53 PAD2/AN2 (in), 54 PAD3/AN3 (in), 55 PAD4/AN4 (in), 56 PAD5/AN5 (in), 57 PAD6/AN6 (in), 58 PAD7/AN7 (in), 59 VDDA (power), 60 VSSA (power), 61 PS0/RXD (io), 62 PS1/TXD (io), 63 PS2 (io), 64 PS3 (io), 65 PS4/SDI/MISO (io), 66 PS5/SDO/MOSI (io), 67 PS6/SCK (io), 68 PS7/~{CS}/~{SS} (io), 69 VFP (power), 70 PCAN6 (io), 71 PCAN5 (io), 72 PCAN4 (io), 73 PCAN3 (io), 74 PCAN2 (io), 75 TXCAN (out), 76 RXCAN (in), 77 VSSX (power), 78 VDDX (power), 79 PP7 (io), 80 PP6 (io)

## MC912BC32MFU8R2
designator U?
16-Bit Microcontroller; Published: 21-Mar-2003; LatestRevisionDate: 13-Apr-2006; LatestRevisionNote: IPC-7351 Footprint Added.; DatasheetVersion: 17-Apr-2002; PackageVersion: rev4.0, Apr-2002; PackageReference: 841B-02; Publisher: Altium Limited; PackageDescription: 80-Pin Quad Flat Pack 0.65 mm Pitch; Code_IPC: QFP65P1720X1720-80; ComponentLink1Description: Manufacturer Link; ComponentLink1URL: http://www.freescale.com/; ComponentLink2Description: Datasheet; ComponentLink2URL: http://www.freescale.com/files/microcontrollers/doc/data_sheet/M68HC12B.pdf
footprint 841B-02_N (QFP, 80-Leads, Body 14 x 14mm, Pitch 0.65mm, IPC Medium Density)
footprint 841B-02_L (QFP, 80-Leads, Body 14 x 14mm, Pitch 0.65mm, IPC High Density)
footprint 841B-02_M (QFP, 80-Leads, Body 14 x 14mm, Pitch 0.65mm, IPC Low Density)
3D model MC912-841B (80-Pin Quad Flat Pack 0.65 mm Pitch)
pins: 1 PP5 (io), 2 PP4 (io), 3 PW3/PP3 (io), 4 PW2/PP2 (io), 5 PW1/PP1 (io), 6 PW0/PP0 (io), 7 IOC0/PT0 (io), 8 IOC1/PT1 (io), 9 IOC2/PT2 (io), 10 VDD (power), 11 VSS (power), 12 IOC3/PT3 (io), 13 IOC4/PT4 (io), 14 IOC5/PT5 (io), 15 IOC6/PT6 (io), 16 PAI/IOC7/PT7 (io), 17 SMODN/~{TAGHI}/BKGD (io), 18 ADDR0/DATA0/PB0 (io), 19 ADDR1/DATA1/PB1 (io), 20 ADDR2/DATA2/PB2 (io), 21 ADDR3/DATA3/PB3 (io), 22 ADDR4/DATA4/PB4 (io), 23 ADDR5/DATA5/PB5 (io), 24 ADDR6/DATA6/PB6 (io), 25 ADDR7/DATA7/PB7 (io), 26 ~{DBE}/PE7 (io), 27 MODB/IPIPE1/PE6 (io), 28 MODA/IPIPE0/PE5 (io), 29 ECLK/PE4 (io), 30 VSSX (power), 31 VDDX (power), 32 ~{RESET} (io), 33 EXTAL (in), 34 XTAL (out), 35 ~{LSTRB}/~{TAGLO}/PE3 (io), 36 R/~{W}/PE2 (io), 37 ~{IRQ}/PE1 (in), 38 ~{XIRQ}/PE0 (in), 39 ADDR8/DATA8/PA0 (io), 40 ADDR9/DATA9/PA1 (io), 41 ADDR10/DATA10/PA2 (io), 42 ADDR11/DATA11/PA3 (io), 43 ADDR12/DATA12/PA4 (io), 44 ADDR13/DATA13/PA5 (io), 45 ADDR14/DATA14/PA6 (io), 46 ADDR15/DATA15/PA7 (io), 47 VDD (power), 48 VSS (power), 49 VRH (in), 50 VRL (in), 51 PAD0/AN0 (in), 52 PAD1/AN1 (in), 53 PAD2/AN2 (in), 54 PAD3/AN3 (in), 55 PAD4/AN4 (in), 56 PAD5/AN5 (in), 57 PAD6/AN6 (in), 58 PAD7/AN7 (in), 59 VDDA (power), 60 VSSA (power), 61 PS0/RXD (io), 62 PS1/TXD (io), 63 PS2 (io), 64 PS3 (io), 65 PS4/SDI/MISO (io), 66 PS5/SDO/MOSI (io), 67 PS6/SCK (io), 68 PS7/~{CS}/~{SS} (io), 69 VFP (power), 70 PCAN6 (io), 71 PCAN5 (io), 72 PCAN4 (io), 73 PCAN3 (io), 74 PCAN2 (io), 75 TXCAN (out), 76 RXCAN (in), 77 VSSX (power), 78 VDDX (power), 79 PP7 (io), 80 PP6 (io)